# Altium integrated library TI Digital Signal Processor 32-Bit.IntLib: 121 symbols (part 5 of 13)
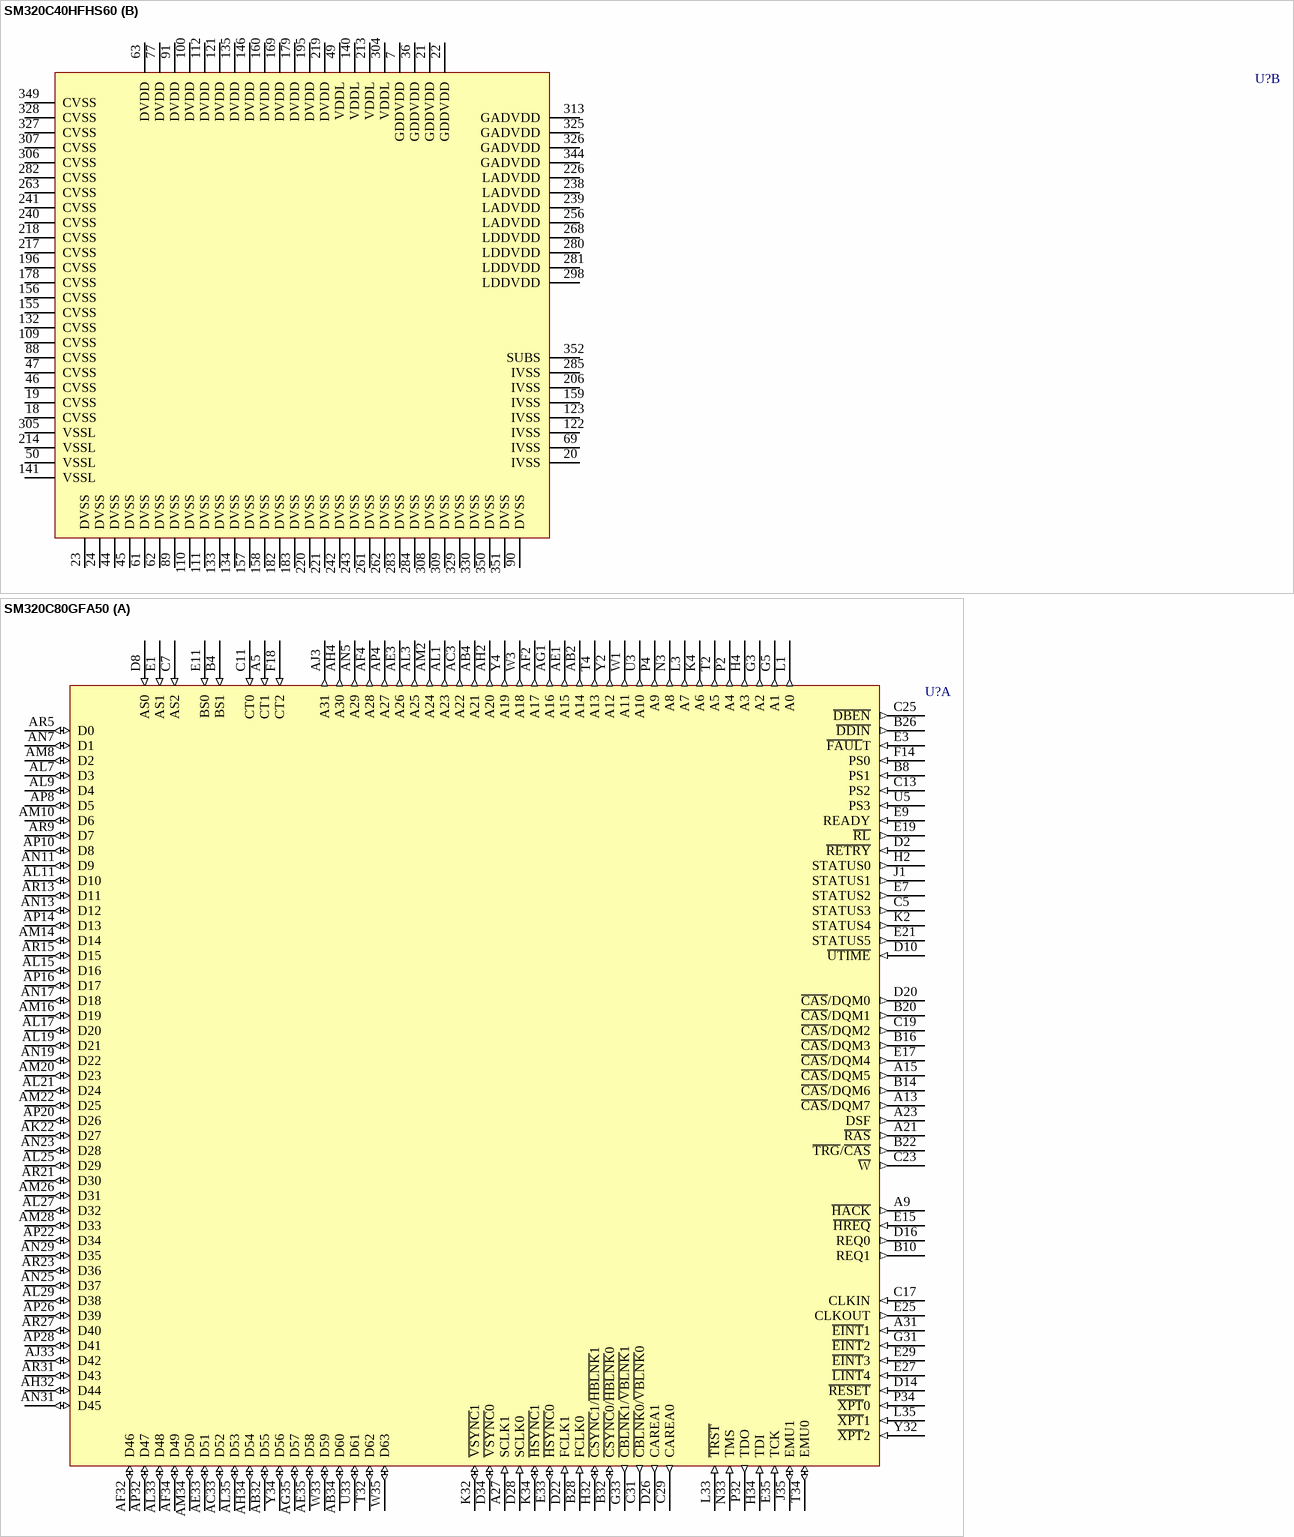
[diagram p134: symbols SM320C40HFHS60 to SM320C80GFA50]

## SM320C40HFHS60
designator U?
Floating DSP; Published: 25-Jan-2001; LatestRevisionDate: 13-Apr-2006; LatestRevisionNote: IPC-7351 Footprint Added.; DatasheetVersion: Jun-2000; PackageVersion: Jun-1999; PackageReference: HFH352; Publisher: Altium Limited; PackageDescription: QFP; 352 Leads; Body 48 x 48 mm; Pitch 0.5mm; ComponentLink1Description: Manufacturer Link; ComponentLink1URL: http://www.ti.com/; ComponentLink2Description: Datasheet; ComponentLink2URL: http://www-s.ti.com/sc/ds/sm320c40.pdf
footprint HFH352_N (CQFP, 352-Leads, Body 48x48mm; Pitch 0.5mm, Gullwing Leadform, IPC Medium Density)
footprint HFH352_L (CQFP, 352-Leads, Body 48x48mm; Pitch 0.5mm, Gullwing Leadform, IPC High Density)
footprint HFH352_M (CQFP, 352-Leads, Body 48x48mm; Pitch 0.5mm, Gullwing Leadform, IPC Low Density)
3D model SM320C40-HFH352 (QFP; 352 Leads; Body 48 x 48 mm; Pitch 0.5mm)
part A pins: 1 D31 (io), 2 D30 (io), 3 D29 (io), 4 D28 (io), 5 D27 (io), 6 D26 (io), 8 D25 (io), 9 D24 (io), 10 D23 (io), 11 D22 (io), 12 D21 (io), 13 D20 (io), 14 D19 (io), 15 D18 (io), 16 D17 (io), 17 D16 (io), 25 D15 (io), 26 D14 (io), 27 D13 (io), 28 D12 (io), 29 D11 (io), 30 D10 (io), 31 D9 (io), 32 D8 (io), 33 D7 (io), 34 D6 (io), 35 D5 (io), 37 D4 (io), 38 D3 (io), 39 D2 (io), 40 D1 (io), 41 D0 (io), 42 ~{CE}1 (in), 43 ~{RDY}1 (in), 48 ~{LOCK} (out), 51 ~{CE}0 (in), 52 ~{RDY}0 (in), 53 ~{DE} (in), 54 TCK (in), 55 TDO (hiz), 56 TDI (in), 57 TMS (in), 58 ~{TRST} (in), 59 EMU0 (io), 60 EMU1 (io), 64 PAGE1 (hiz), 65 R/~{W}1 (hiz), 66 ~{STRB}1 (hiz), 67 STAT0 (out), 68 STAT1 (out), 70 STAT2 (out), 71 STAT3 (out), 72 PAGE0 (hiz), 73 R/~{W}0 (hiz), 74 ~{STRB}0 (hiz), 75 ~{AE} (in), 76 RESETLOC1 (in), 78 RESETLOC0 (in), 79 ~{RESET} (in), 80 ~{CRDY}5 (io), 81 ~{CSTRB}5 (io), 82 ~{CACK}5 (io), 83 ~{CREQ}5 (io), 84 ~{CRDY}4 (io), 85 ~{CSTRB}4 (io), 86 ~{CACK}4 (io), 87 ~{CREQ}4 (io), 92 C5D7 (io), 93 C5D6 (io), 94 C5D5 (io), 95 C5D4 (io), 96 C5D3 (io), 97 C5D2 (io), 98 C5D1 (io), 99 C5D0 (io), 101 C4D7 (io), 102 C4D6 (io), 103 C4D5 (io), 104 C4D4 (io), 105 C4D3 (io), 106 C4D2 (io), 107 C4D1 (io), 108 C4D0 (io), 113 C3D7 (io), 114 C3D6 (io), 115 C3D5 (io), 116 C3D4 (io), 117 C3D3 (io), 118 C3D2 (io), 119 C3D1 (io), 120 C3D0 (io), 124 C2D7 (io), 125 C2D6 (io), 126 C2D5 (io), 127 C2D4 (io), 128 C2D3 (io), 129 C2D2 (io), 130 C2D1 (io), 131 C2D0 (io), 136 ~{CRDY}3 (io), 137 ~{CSTRB}3 (io), 138 ~{CACK}3 (io), 139 ~{CREQ}3 (io), 142 ~{CRDY}2 (io), 143 ~{CSTRB}2 (io), 144 ~{CACK}2 (io), 145 ~{CREQ}2 (io), 147 ~{CRDY}1 (io), 148 ~{CSTRB}1 (io), 149 ~{CACK}1 (io), 150 ~{CREQ}1 (io), 151 ~{CRDY}0 (io), 152 ~{CSTRB}0 (io), 153 ~{CACK}0 (io), 154 ~{CREQ}0 (io), 161 C1D7 (io), 162 C1D6 (io), 163 C1D5 (io), 164 C1D4 (io), 165 C1D3 (io), 166 C1D2 (io), 167 C1D1 (io), 168 C1D0 (io), 170 C0D7 (io), 171 C0D6 (io), 172 C0D5 (io), 173 C0D4 (io), 174 C0D3 (io), 175 C0D2 (io), 176 C0D1 (io), 177 C0D0 (io), 180 ROMEN (in), 181 ~{IIOF}0 (io), 184 ~{IIOF}1 (io), 185 ~{IIOF}2 (io), 186 ~{IIOF}3 (io), 187 ~{NMI} (in), 188 ~{LSTRB}0 (hiz), 189 LR/~{W}0 (hiz), 190 LPAGE0 (hiz), 191 ~{LRDY}0 (in), 192 ~{LCE}0 (in), 193 ~{LSTRB}1 (hiz), 194 LR/~{W}1 (hiz), 197 LPAGE1 (hiz), 198 ~{LRDY}1 (in), 199 ~{LCE}1 (in), 200 ~{LDE} (in), 201 TCLK0 (io), 202 TCLK1 (io), 203 H3 (out), 204 H1 (out), 205 ~{LAE} (in), 207 ~{LLOCK} (out), 208 LSTAT0 (out), 209 LSTAT1 (out), 210 LSTAT2 (out), 211 LSTAT3 (out), 212 ~{IACK} (out), 215 X1 (out), 216 X2/CLKI (in), 222 LA30 (hiz), 223 LA29 (hiz), 224 LA28 (hiz), 225 LA27 (hiz), 227 LA26 (hiz), 228 LA25 (hiz), 229 LA24 (hiz), 230 LA23 (hiz), 231 LA22 (hiz), 232 LA21 (hiz), 233 LA20 (hiz), 234 LA19 (hiz), 235 LA18 (hiz), 236 LA17 (hiz), 237 LA16 (hiz), 244 LA15 (hiz), 245 LA14 (hiz), 246 LA13 (hiz), 247 LA12 (hiz), 248 LA11 (hiz), 249 LA10 (hiz), 250 LA9 (hiz), 251 LA8 (hiz), 252 LA7 (hiz), 253 LA6 (hiz), 254 LA5 (hiz), 255 LA4 (hiz), 257 LA3 (hiz), 258 LA2 (hiz), 259 LA1 (hiz), 260 LA0 (hiz), 264 LD31 (io), 265 LD30 (io), 266 LD29 (io), 267 LD28 (io), 269 LD27 (io), 270 LD26 (io), 271 LD25 (io), 272 LD24 (io), 273 LD23 (io), 274 LD22 (io), 275 LD21 (io), 276 LD20 (io), 277 LD19 (io), 278 LD18 (io), 279 LD17 (io), 286 LD16 (io), 287 LD15 (io), 288 LD14 (io), 289 LD13 (io), 290 LD12 (io), 291 LD11 (io), 292 LD10 (io), 293 LD9 (io), 294 LD8 (io), 295 LD7 (io), 296 LD6 (io), 297 LD5 (io), 299 LD4 (io), 300 LD3 (io), 301 LD2 (io), 302 LD1 (io), 303 LD0 (io), 310 A30 (hiz), 311 A29 (hiz), 312 A28 (hiz), 314 A27 (hiz), 315 A26 (hiz), 316 A25 (hiz), 317 A24 (hiz), 318 A23 (hiz), 319 A22 (hiz), 320 A21 (hiz), 321 A20 (hiz), 322 A19 (hiz), 323 A18 (hiz), 324 A17 (hiz), 331 A16 (hiz), 332 A15 (hiz), 333 A14 (hiz), 334 A13 (hiz), 335 A12 (hiz), 336 A11 (hiz), 337 A10 (hiz), 338 A9 (hiz), 339 A8 (hiz), 340 A7 (hiz), 341 A6 (hiz), 342 A5 (hiz), 343 A4 (hiz), 345 A3 (hiz), 346 A2 (hiz), 347 A1 (hiz), 348 A0 (hiz)
part B pins: 7 GDDVDD (power), 18 CVSS (power), 19 CVSS (power), 20 IVSS (power), 21 GDDVDD (power), 22 GDDVDD (power), 23 DVSS (power), 24 DVSS (power), 36 GDDVDD (power), 44 DVSS (power), 45 DVSS (power), 46 CVSS (power), 47 CVSS (power), 49 VDDL (power), 50 VSSL (power), 61 DVSS (power), 62 DVSS (power), 63 DVDD (power), 69 IVSS (power), 77 DVDD (power), 88 CVSS (power), 89 DVSS (power), 90 DVSS (power), 91 DVDD (power), 100 DVDD (power), 109 CVSS (power), 110 DVSS (power), 111 DVSS (power), 112 DVDD (power), 121 DVDD (power), 122 IVSS (power), 123 IVSS (power), 132 CVSS (power), 133 DVSS (power), 134 DVSS (power), 135 DVDD (power), 140 VDDL (power), 141 VSSL (power), 146 DVDD (power), 155 CVSS (power), 156 CVSS (power), 157 DVSS (power), 158 DVSS (power), 159 IVSS (power), 160 DVDD (power), 169 DVDD (power), 178 CVSS (power), 179 DVDD (power), 182 DVSS (power), 183 DVSS (power), 195 DVDD (power), 196 CVSS (power), 206 IVSS (power), 213 VDDL (power), 214 VSSL (power), 217 CVSS (power), 218 CVSS (power), 219 DVDD (power), 220 DVSS (power), 221 DVSS (power), 226 LADVDD (power), 238 LADVDD (power), 239 LADVDD (power), 240 CVSS (power), 241 CVSS (power), 242 DVSS (power), 243 DVSS (power), 256 LADVDD (power), 261 DVSS (power), 262 DVSS (power), 263 CVSS (power), 268 LDDVDD (power), 280 LDDVDD (power), 281 LDDVDD (power), 282 CVSS (power), 283 DVSS (power), 284 DVSS (power), 285 IVSS (power), 298 LDDVDD (power), 304 VDDL (power), 305 VSSL (power), 306 CVSS (power), 307 CVSS (power), 308 DVSS (power), 309 DVSS (power), 313 GADVDD (power), 325 GADVDD (power), 326 GADVDD (power), 327 CVSS (power), 328 CVSS (power), 329 DVSS (power), 330 DVSS (power), 344 GADVDD (power), 349 CVSS (power), 350 DVSS (power), 351 DVSS (power), 352 SUBS (power)

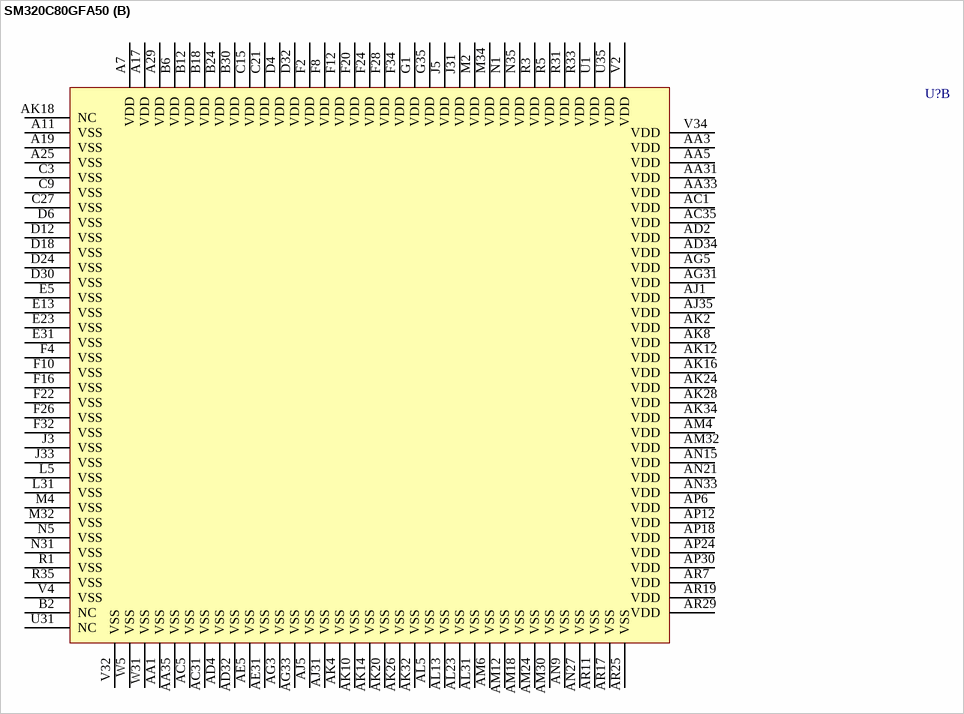
[diagram p52: symbol SM320C80GFA50]

## SM320C80GFA50
designator U?
DSP; Published: 25-Jan-2001; LatestRevisionDate: 08-Jul-2005; LatestRevisionNote: Stylized 3D Model Added.; DatasheetVersion: Aug-1998; PackageVersion: Jun-1997; PackageReference: GF305; Publisher: Altium Limited; PackageDescription: 305-Pin Pin Grid Array 2.54 mm Pitch; ComponentLink1Description: Manufacturer Link; ComponentLink1URL: http://www.ti.com/; ComponentLink2Description: Datasheet; ComponentLink2URL: http://www-s.ti.com/sc/ds/smj320c80.pdf
footprint GF305 (PGA, 305-Leads, Body 47x47mm, Pitch 2.54mm)
3D model SM320C80-GF305 (305-Pin Pin Grid Array 2.54 mm Pitch)
part A pins: A5 CT1 (in), A9 ~{HACK} (out), A13 ~{CAS}/DQM7 (out), A15 ~{CAS}/DQM5 (out), A21 ~{RAS} (out), A23 DSF (out), A27 SCLK1 (in), A31 ~{EINT}1 (in), AB2 A14 (out), AB4 A21 (out), AB32 D55 (io), AB34 D60 (io), AC3 A22 (out), AC33 D52 (io), AE1 A15 (out), AE3 A26 (out), AE33 D51 (io), AE35 D58 (io), AF2 A17 (out), AF4 A28 (out), AF32 D46 (io), AF34 D49 (io), AG1 A16 (out), AG35 D57 (io), AH2 A20 (out), AH4 A30 (out), AH32 D44 (io), AH34 D54 (io), AJ3 A31 (out), AJ33 D42 (io), AK22 D27 (io), AL1 A23 (out), AL3 A25 (out), AL7 D3 (io), AL9 D4 (io), AL11 D10 (io), AL15 D16 (io), AL17 D20 (io), AL19 D21 (io), AL21 D24 (io), AL25 D29 (io), AL27 D32 (io), AL29 D38 (io), AL33 D48 (io), AL35 D53 (io), AM2 A24 (out), AM8 D2 (io), AM10 D6 (io), AM14 D14 (io), AM16 D19 (io), AM20 D23 (io), AM22 D25 (io), AM26 D31 (io), AM28 D33 (io), AM34 D50 (io), AN5 A29 (out), AN7 D1 (io), AN11 D9 (io), AN13 D12 (io), AN17 D18 (io), AN19 D22 (io), AN23 D28 (io), AN25 D37 (io), AN29 D35 (io), AN31 D45 (io), AP4 A27 (out), AP8 D5 (io), AP10 D8 (io), AP14 D13 (io), AP16 D17 (io), AP20 D26 (io), AP22 D34 (io), AP26 D39 (io), AP28 D41 (io), AP32 D47 (io), AR5 D0 (io), AR9 D7 (io), AR13 D11 (io), AR15 D15 (io), AR21 D30 (io), AR23 D36 (io), AR27 D40 (io), AR31 D43 (io), B4 BS1 (in), B8 PS1 (in), B10 REQ1 (out), B14 ~{CAS}/DQM6 (out), B16 ~{CAS}/DQM3 (out), B20 ~{CAS}/DQM1 (out), B22 ~{TRG}/~{CAS} (out), B26 ~{DDIN} (out), B28 FCLK0 (in), B32 ~{CSYNC}0/~{HBLNK}0 (io), C5 STATUS3 (out), C7 AS2 (in), C11 CT0 (in), C13 PS2 (in), C17 CLKIN (in), C19 ~{CAS}/DQM2 (out), C23 ~{W} (out), C25 ~{DBEN} (out), C29 CAREA0 (out), C31 ~{CBLNK}0/~{VBLNK}0 (out), D2 ~{RETRY} (in), D8 AS0 (in), D10 ~{UTIME} (in), D14 ~{RESET} (in), D16 REQ0 (out), D20 ~{CAS}/DQM0 (out), D22 FCLK1 (in), D26 CAREA1 (out), D28 SCLK0 (in), D34 ~{VSYNC}0 (io), E1 AS1 (in), E3 ~{FAUL}T (in), E7 STATUS2 (out), E9 READY (in), E11 BS0 (in), E15 ~{HREQ} (in), E17 ~{CAS}/DQM4 (out), E19 ~{RL} (out), E21 STATUS5 (out), E25 CLKOUT (out), E27 ~{LINT}4 (in), E29 ~{EINT}3 (in), E33 ~{HSYNC}0 (io), E35 TCK (in), F14 PS0 (in), F18 CT2 (in), G3 A2 (out), G5 A1 (out), G31 ~{EINT}2 (in), G33 ~{CBLNK}1/~{VBLNK}1 (out), H2 STATUS0 (out), H4 A3 (out), H32 ~{CSYNC}1/~{HBLNK}1 (io), H34 TDI (in), J1 STATUS1 (out), J35 EMU1 (io), K2 STATUS4 (out), K4 A6 (out), K32 ~{VSYNC}1 (io), K34 ~{HSYNC}1 (io), L1 A0 (out), L3 A7 (out), L33 ~{TRST} (in), L35 ~{XPT}1 (in), N3 A8 (out), N33 TMS (in), P2 A4 (out), P4 A9 (out), P32 TDO (out), P34 ~{XPT}0 (in), T2 A5 (out), T4 A13 (out), T32 D62 (io), T34 EMU0 (io), U3 A10 (out), U5 PS3 (in), U33 D61 (io), W1 A11 (out), W3 A18 (out), W33 D59 (io), W35 D63 (io), Y2 A12 (out), Y4 A19 (out), Y32 ~{XPT}2 (in), Y34 D56 (io)
part B pins: A7 VDD (power), A11 VSS (power), A17 VDD (power), A19 VSS (power), A25 VSS (power), A29 VDD (power), AA1 VSS (power), AA3 VDD (power), AA5 VDD (power), AA31 VDD (power), AA33 VDD (power), AA35 VSS (power), AC1 VDD (power), AC5 VSS (power), AC31 VSS (power), AC35 VDD (power), AD2 VDD (power), AD4 VSS (power), AD32 VSS (power), AD34 VDD (power), AE5 VSS (power), AE31 VSS (power), AG3 VSS (power), AG5 VDD (power), AG31 VDD (power), AG33 VSS (power), AJ1 VDD (power), AJ5 VSS (power), AJ31 VSS (power), AJ35 VDD (power), AK2 VDD (power), AK4 VSS (power), AK8 VDD (power), AK10 VSS (power), AK12 VDD (power), AK14 VSS (power), AK16 VDD (power), AK18 NC, AK20 VSS (power), AK24 VDD (power), AK26 VSS (power), AK28 VDD (power), AK32 VSS (power), AK34 VDD (power), AL5 VSS (power), AL13 VSS (power), AL23 VSS (power), AL31 VSS (power), AM4 VDD (power), AM6 VSS (power), AM12 VSS (power), AM18 VSS (power), AM24 VSS (power), AM30 VSS (power), AM32 VDD (power), AN9 VSS (power), AN15 VDD (power), AN21 VDD (power), AN27 VSS (power), AN33 VDD (power), AP6 VDD (power), AP12 VDD (power), AP18 VDD (power), AP24 VDD (power), AP30 VDD (power), AR7 VDD (power), AR11 VSS (power), AR17 VSS (power), AR19 VDD (power), AR25 VSS (power), AR29 VDD (power), B2 NC, B6 VDD (power), B12 VDD (power), B18 VDD (power), B24 VDD (power), B30 VDD (power), C3 VSS (power), C9 VSS (power), C15 VDD (power), C21 VDD (power), C27 VSS (power), D4 VDD (power), D6 VSS (power), D12 VSS (power), D18 VSS (power), D24 VSS (power), D30 VSS (power), D32 VDD (power), E5 VSS (power), E13 VSS (power), E23 VSS (power), E31 VSS (power), F2 VDD (power), F4 VSS (power), F8 VDD (power), F10 VSS (power), F12 VDD (power), F16 VSS (power), F20 VDD (power), F22 VSS (power), F24 VDD (power), F26 VSS (power), F28 VDD (power), F32 VSS (power), F34 VDD (power), G1 VDD (power), G35 VDD (power), J3 VSS (power), J5 VDD (power), J31 VDD (power), J33 VSS (power), L5 VSS (power), L31 VSS (power), M2 VDD (power), M4 VSS (power), M32 VSS (power), M34 VDD (power), N1 VDD (power), N5 VSS (power), N31 VSS (power), N35 VDD (power), R1 VSS (power), R3 VDD (power), R5 VDD (power), R31 VDD (power), R33 VDD (power), R35 VSS (power), U1 VDD (power), U31 NC, U35 VDD (power), V2 VDD (power), V4 VSS (power), V32 VSS (power), V34 VDD (power), W5 VSS (power), W31 VSS (power)

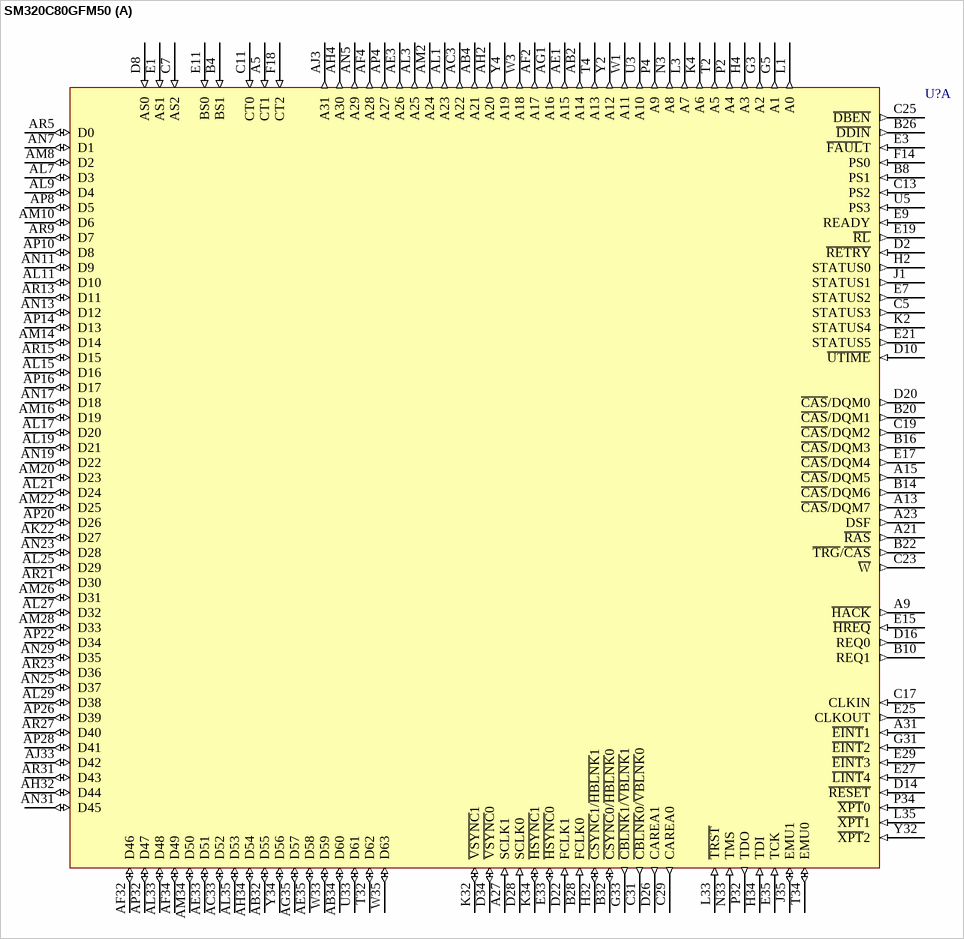
[diagram p53: symbol SM320C80GFM50]

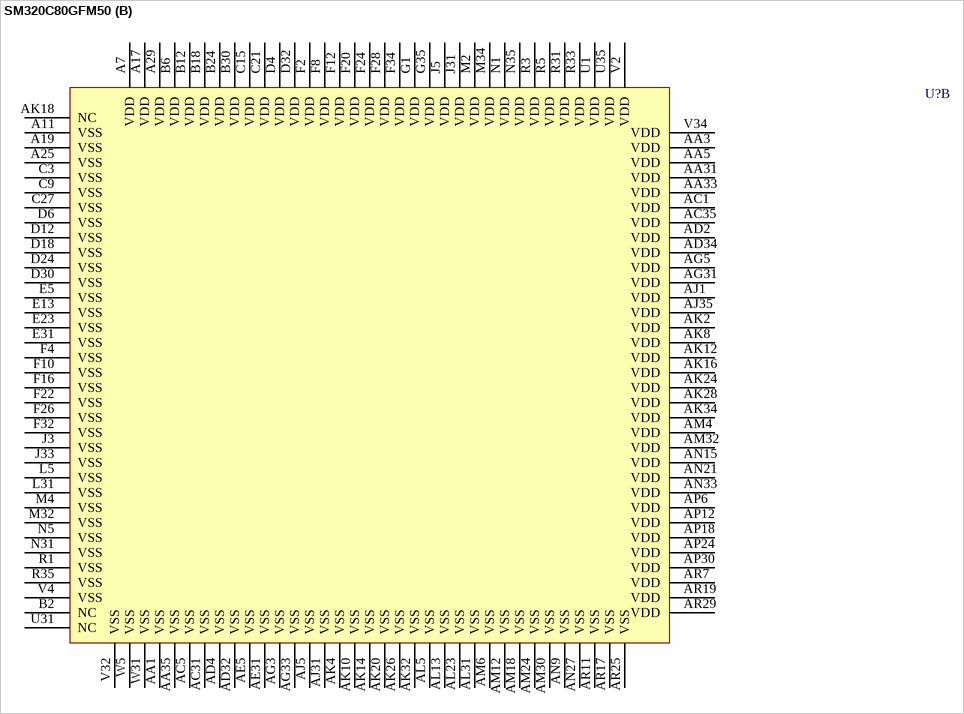
[diagram p54: symbol SM320C80GFM50]

## SM320C80GFM50
designator U?
DSP; Published: 25-Jan-2001; LatestRevisionDate: 08-Jul-2005; LatestRevisionNote: Stylized 3D Model Added.; DatasheetVersion: Aug-1998; PackageVersion: Jun-1997; PackageReference: GF305; Publisher: Altium Limited; PackageDescription: 305-Pin Pin Grid Array 2.54 mm Pitch; ComponentLink1Description: Manufacturer Link; ComponentLink1URL: http://www.ti.com/; ComponentLink2Description: Datasheet; ComponentLink2URL: http://www-s.ti.com/sc/ds/smj320c80.pdf
footprint GF305 (PGA, 305-Leads, Body 47x47mm, Pitch 2.54mm)
3D model SM320C80-GF305 (305-Pin Pin Grid Array 2.54 mm Pitch)
part A pins: A5 CT1 (in), A9 ~{HACK} (out), A13 ~{CAS}/DQM7 (out), A15 ~{CAS}/DQM5 (out), A21 ~{RAS} (out), A23 DSF (out), A27 SCLK1 (in), A31 ~{EINT}1 (in), AB2 A14 (out), AB4 A21 (out), AB32 D55 (io), AB34 D60 (io), AC3 A22 (out), AC33 D52 (io), AE1 A15 (out), AE3 A26 (out), AE33 D51 (io), AE35 D58 (io), AF2 A17 (out), AF4 A28 (out), AF32 D46 (io), AF34 D49 (io), AG1 A16 (out), AG35 D57 (io), AH2 A20 (out), AH4 A30 (out), AH32 D44 (io), AH34 D54 (io), AJ3 A31 (out), AJ33 D42 (io), AK22 D27 (io), AL1 A23 (out), AL3 A25 (out), AL7 D3 (io), AL9 D4 (io), AL11 D10 (io), AL15 D16 (io), AL17 D20 (io), AL19 D21 (io), AL21 D24 (io), AL25 D29 (io), AL27 D32 (io), AL29 D38 (io), AL33 D48 (io), AL35 D53 (io), AM2 A24 (out), AM8 D2 (io), AM10 D6 (io), AM14 D14 (io), AM16 D19 (io), AM20 D23 (io), AM22 D25 (io), AM26 D31 (io), AM28 D33 (io), AM34 D50 (io), AN5 A29 (out), AN7 D1 (io), AN11 D9 (io), AN13 D12 (io), AN17 D18 (io), AN19 D22 (io), AN23 D28 (io), AN25 D37 (io), AN29 D35 (io), AN31 D45 (io), AP4 A27 (out), AP8 D5 (io), AP10 D8 (io), AP14 D13 (io), AP16 D17 (io), AP20 D26 (io), AP22 D34 (io), AP26 D39 (io), AP28 D41 (io), AP32 D47 (io), AR5 D0 (io), AR9 D7 (io), AR13 D11 (io), AR15 D15 (io), AR21 D30 (io), AR23 D36 (io), AR27 D40 (io), AR31 D43 (io), B4 BS1 (in), B8 PS1 (in), B10 REQ1 (out), B14 ~{CAS}/DQM6 (out), B16 ~{CAS}/DQM3 (out), B20 ~{CAS}/DQM1 (out), B22 ~{TRG}/~{CAS} (out), B26 ~{DDIN} (out), B28 FCLK0 (in), B32 ~{CSYNC}0/~{HBLNK}0 (io), C5 STATUS3 (out), C7 AS2 (in), C11 CT0 (in), C13 PS2 (in), C17 CLKIN (in), C19 ~{CAS}/DQM2 (out), C23 ~{W} (out), C25 ~{DBEN} (out), C29 CAREA0 (out), C31 ~{CBLNK}0/~{VBLNK}0 (out), D2 ~{RETRY} (in), D8 AS0 (in), D10 ~{UTIME} (in), D14 ~{RESET} (in), D16 REQ0 (out), D20 ~{CAS}/DQM0 (out), D22 FCLK1 (in), D26 CAREA1 (out), D28 SCLK0 (in), D34 ~{VSYNC}0 (io), E1 AS1 (in), E3 ~{FAUL}T (in), E7 STATUS2 (out), E9 READY (in), E11 BS0 (in), E15 ~{HREQ} (in), E17 ~{CAS}/DQM4 (out), E19 ~{RL} (out), E21 STATUS5 (out), E25 CLKOUT (out), E27 ~{LINT}4 (in), E29 ~{EINT}3 (in), E33 ~{HSYNC}0 (io), E35 TCK (in), F14 PS0 (in), F18 CT2 (in), G3 A2 (out), G5 A1 (out), G31 ~{EINT}2 (in), G33 ~{CBLNK}1/~{VBLNK}1 (out), H2 STATUS0 (out), H4 A3 (out), H32 ~{CSYNC}1/~{HBLNK}1 (io), H34 TDI (in), J1 STATUS1 (out), J35 EMU1 (io), K2 STATUS4 (out), K4 A6 (out), K32 ~{VSYNC}1 (io), K34 ~{HSYNC}1 (io), L1 A0 (out), L3 A7 (out), L33 ~{TRST} (in), L35 ~{XPT}1 (in), N3 A8 (out), N33 TMS (in), P2 A4 (out), P4 A9 (out), P32 TDO (out), P34 ~{XPT}0 (in), T2 A5 (out), T4 A13 (out), T32 D62 (io), T34 EMU0 (io), U3 A10 (out), U5 PS3 (in), U33 D61 (io), W1 A11 (out), W3 A18 (out), W33 D59 (io), W35 D63 (io), Y2 A12 (out), Y4 A19 (out), Y32 ~{XPT}2 (in), Y34 D56 (io)
part B pins: A7 VDD (power), A11 VSS (power), A17 VDD (power), A19 VSS (power), A25 VSS (power), A29 VDD (power), AA1 VSS (power), AA3 VDD (power), AA5 VDD (power), AA31 VDD (power), AA33 VDD (power), AA35 VSS (power), AC1 VDD (power), AC5 VSS (power), AC31 VSS (power), AC35 VDD (power), AD2 VDD (power), AD4 VSS (power), AD32 VSS (power), AD34 VDD (power), AE5 VSS (power), AE31 VSS (power), AG3 VSS (power), AG5 VDD (power), AG31 VDD (power), AG33 VSS (power), AJ1 VDD (power), AJ5 VSS (power), AJ31 VSS (power), AJ35 VDD (power), AK2 VDD (power), AK4 VSS (power), AK8 VDD (power), AK10 VSS (power), AK12 VDD (power), AK14 VSS (power), AK16 VDD (power), AK18 NC, AK20 VSS (power), AK24 VDD (power), AK26 VSS (power), AK28 VDD (power), AK32 VSS (power), AK34 VDD (power), AL5 VSS (power), AL13 VSS (power), AL23 VSS (power), AL31 VSS (power), AM4 VDD (power), AM6 VSS (power), AM12 VSS (power), AM18 VSS (power), AM24 VSS (power), AM30 VSS (power), AM32 VDD (power), AN9 VSS (power), AN15 VDD (power), AN21 VDD (power), AN27 VSS (power), AN33 VDD (power), AP6 VDD (power), AP12 VDD (power), AP18 VDD (power), AP24 VDD (power), AP30 VDD (power), AR7 VDD (power), AR11 VSS (power), AR17 VSS (power), AR19 VDD (power), AR25 VSS (power), AR29 VDD (power), B2 NC, B6 VDD (power), B12 VDD (power), B18 VDD (power), B24 VDD (power), B30 VDD (power), C3 VSS (power), C9 VSS (power), C15 VDD (power), C21 VDD (power), C27 VSS (power), D4 VDD (power), D6 VSS (power), D12 VSS (power), D18 VSS (power), D24 VSS (power), D30 VSS (power), D32 VDD (power), E5 VSS (power), E13 VSS (power), E23 VSS (power), E31 VSS (power), F2 VDD (power), F4 VSS (power), F8 VDD (power), F10 VSS (power), F12 VDD (power), F16 VSS (power), F20 VDD (power), F22 VSS (power), F24 VDD (power), F26 VSS (power), F28 VDD (power), F32 VSS (power), F34 VDD (power), G1 VDD (power), G35 VDD (power), J3 VSS (power), J5 VDD (power), J31 VDD (power), J33 VSS (power), L5 VSS (power), L31 VSS (power), M2 VDD (power), M4 VSS (power), M32 VSS (power), M34 VDD (power), N1 VDD (power), N5 VSS (power), N31 VSS (power), N35 VDD (power), R1 VSS (power), R3 VDD (power), R5 VDD (power), R31 VDD (power), R33 VDD (power), R35 VSS (power), U1 VDD (power), U31 NC, U35 VDD (power), V2 VDD (power), V4 VSS (power), V32 VSS (power), V34 VDD (power), W5 VSS (power), W31 VSS (power)

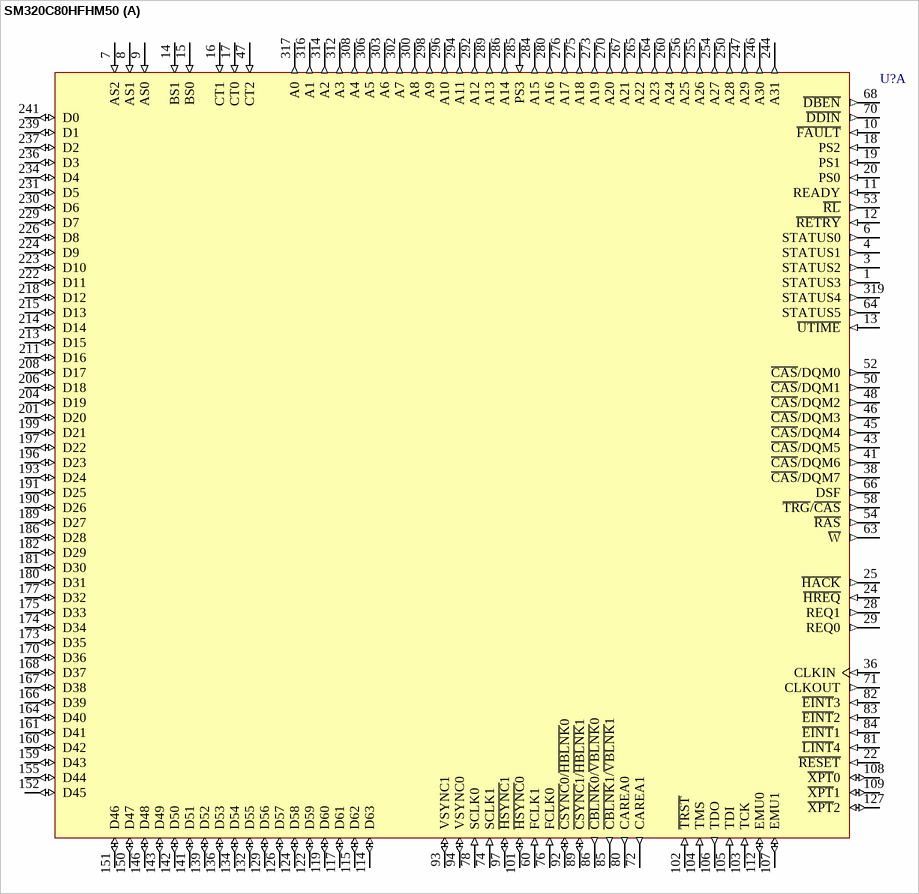
[diagram p55: symbol SM320C80HFHM50]

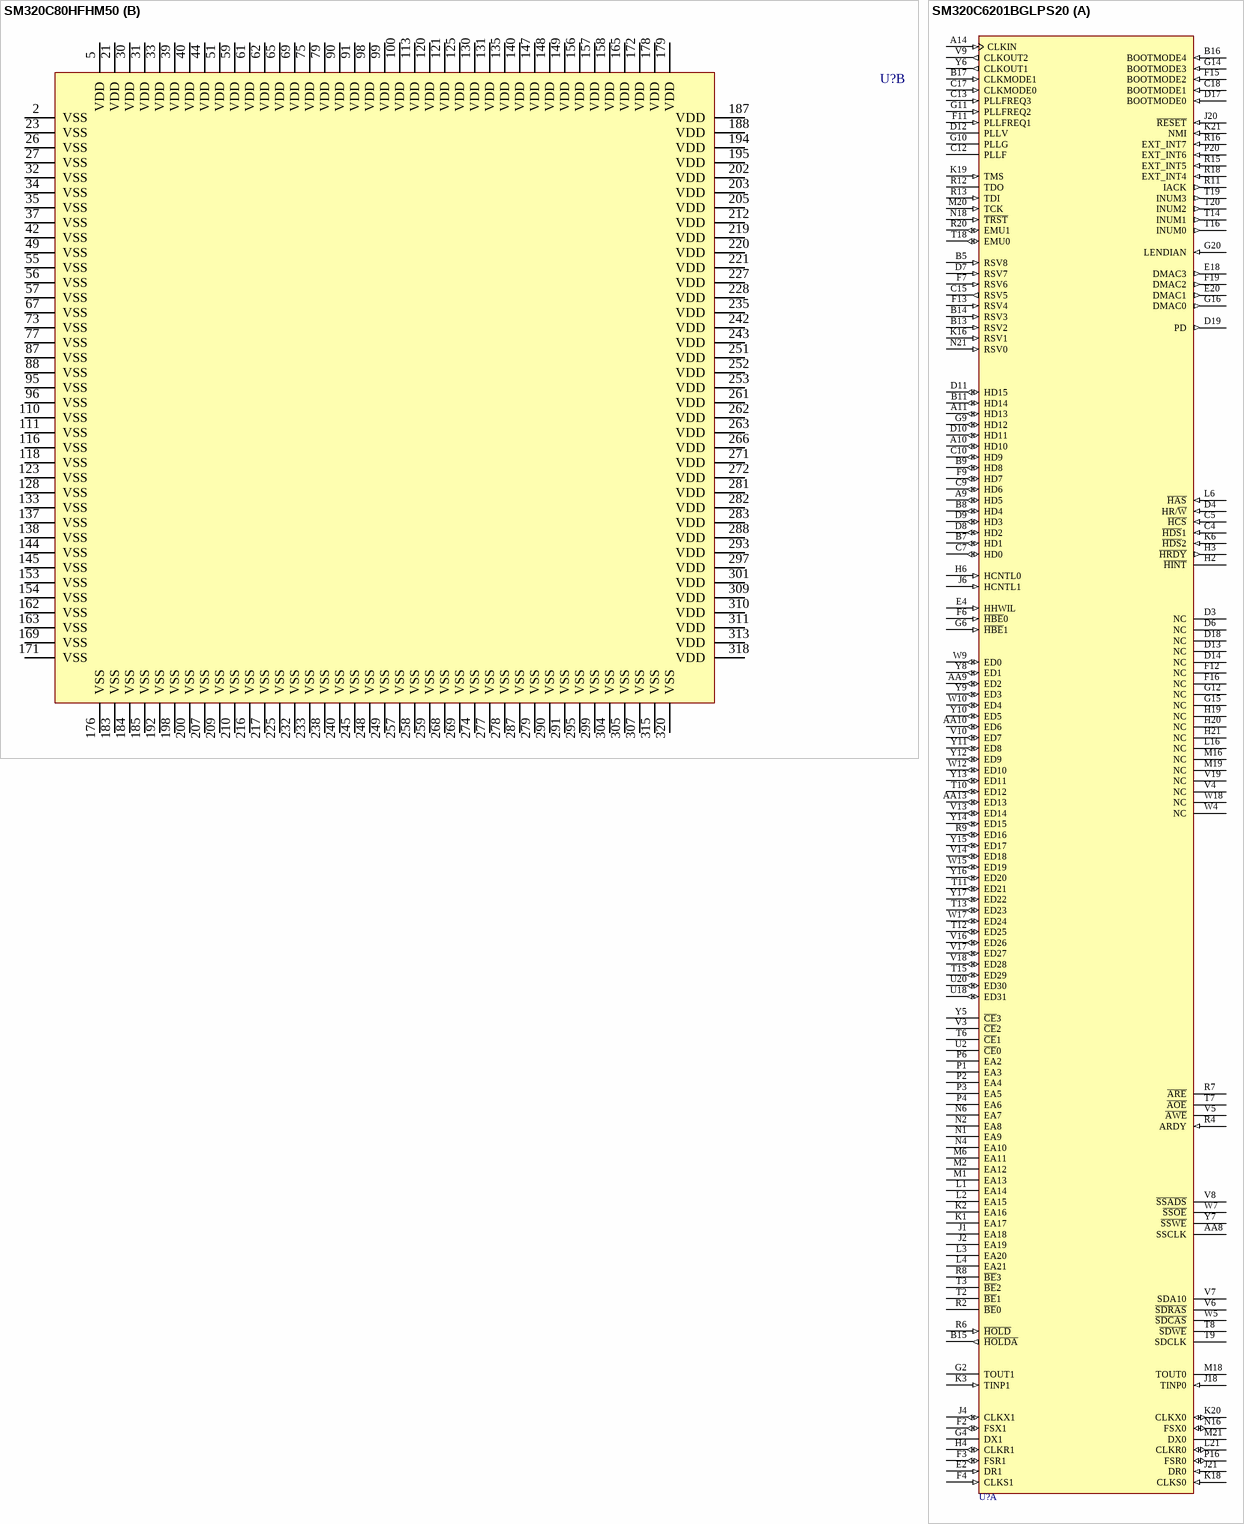
[diagram p56: symbols SM320C80HFHM50 to SM320C6201BGLPS20]

## SM320C80HFHM50
designator U?
DSP; Published: 25-Jan-2001; LatestRevisionDate: 13-Apr-2006; LatestRevisionNote: IPC-7351 Footprint Added.; DatasheetVersion: Aug-1998; PackageVersion: Jun-1999; PackageReference: HFH320; Publisher: Altium Limited; PackageDescription: QFP; 320 Leads; Body 44 x 44 mm; Pitch 0.5mm; ComponentLink1Description: Manufacturer Link; ComponentLink1URL: http://www.ti.com/; ComponentLink2Description: Datasheet; ComponentLink2URL: http://www-s.ti.com/sc/ds/smj320c80.pdf
footprint HFH320_N (CQFP, 320-Leads, Body 44x44mm; Pitch 0.5mm, Gullwing Leadform, IPC Medium Density)
footprint HFH320_L (CQFP, 320-Leads, Body 44x44mm; Pitch 0.5mm, Gullwing Leadform, IPC High Density)
footprint HFH320_M (CQFP, 320-Leads, Body 44x44mm; Pitch 0.5mm, Gullwing Leadform, IPC Low Density)
3D model SM320C80-HFH320 (QFP; 320 Leads; Body 44 x 44 mm; Pitch 0.5mm)
part A pins: 1 STATUS3 (out), 3 STATUS2 (out), 4 STATUS1 (out), 6 STATUS0 (out), 7 AS2 (in), 8 AS1 (in), 9 AS0 (in), 10 ~{FAULT} (in), 11 READY (in), 12 ~{RETRY} (in), 13 ~{UTIME} (in), 14 BS1 (in), 15 BS0 (in), 16 CT1 (in), 17 CT0 (in), 18 PS2 (in), 19 PS1 (in), 20 PS0 (in), 22 ~{RESET} (in), 24 ~{HREQ} (in), 25 ~{HACK} (out), 28 REQ1 (out), 29 REQ0 (out), 36 CLKIN (in), 38 ~{CAS}/DQM7 (out), 41 ~{CAS}/DQM6 (out), 43 ~{CAS}/DQM5 (out), 45 ~{CAS}/DQM4 (out), 46 ~{CAS}/DQM3 (out), 47 CT2 (in), 48 ~{CAS}/DQM2 (out), 50 ~{CAS}/DQM1 (out), 52 ~{CAS}/DQM0 (out), 53 ~{RL} (out), 54 ~{RAS} (out), 58 ~{TRG}/~{CAS} (out), 60 FCLK1 (in), 63 ~{W} (out), 64 STATUS5 (out), 66 DSF (out), 68 ~{DBEN} (out), 70 ~{DDIN} (out), 71 CLKOUT (out), 72 CAREA1 (out), 74 SCLK1 (in), 76 FCLK0 (in), 78 SCLK0 (in), 80 CAREA0 (out), 81 ~{LINT}4 (in), 82 ~{EINT}3 (in), 83 ~{EINT}2 (in), 84 ~{EINT}1 (in), 85 ~{CBLNK}1/~{VBLNK}1 (out), 86 ~{CBLNK}0/~{VBLNK}0 (out), 89 ~{CSYNC}1/~{HBLNK}1 (io), 92 ~{CSYNC}0/~{HBLNK}0 (io), 93 VSYNC1 (io), 94 VSYNC0 (io), 97 ~{HSYNC}1 (io), 101 ~{HSYNC}0 (io), 102 ~{TRST} (in), 103 TCK (in), 104 TMS (in), 105 TDI (in), 106 TDO (out), 107 EMU1 (io), 108 ~{XPT}0 (io), 109 ~{XPT}1 (io), 112 EMU0 (io), 114 D63 (io), 115 D62 (io), 117 D61 (io), 119 D60 (io), 122 D59 (io), 124 D58 (io), 126 D57 (io), 127 ~{XPT}2 (io), 129 D56 (io), 132 D55 (io), 134 D54 (io), 136 D53 (io), 139 D52 (io), 141 D51 (io), 142 D50 (io), 143 D49 (io), 146 D48 (io), 150 D47 (io), 151 D46 (io), 152 D45 (io), 155 D44 (io), 159 D43 (io), 160 D42 (io), 161 D41 (io), 164 D40 (io), 166 D39 (io), 167 D38 (io), 168 D37 (io), 170 D36 (io), 173 D35 (io), 174 D34 (io), 175 D33 (io), 177 D32 (io), 180 D31 (io), 181 D30 (io), 182 D29 (io), 186 D28 (io), 189 D27 (io), 190 D26 (io), 191 D25 (io), 193 D24 (io), 196 D23 (io), 197 D22 (io), 199 D21 (io), 201 D20 (io), 204 D19 (io), 206 D18 (io), 208 D17 (io), 211 D16 (io), 213 D15 (io), 214 D14 (io), 215 D13 (io), 218 D12 (io), 222 D11 (io), 223 D10 (io), 224 D9 (io), 226 D8 (io), 229 D7 (io), 230 D6 (io), 231 D5 (io), 234 D4 (io), 236 D3 (io), 237 D2 (io), 239 D1 (io), 241 D0 (io), 244 A31 (out), 246 A30 (out), 247 A29 (out), 250 A28 (out), 254 A27 (out), 255 A26 (out), 256 A25 (out), 260 A24 (out), 264 A23 (out), 265 A22 (out), 267 A21 (out), 270 A20 (out), 273 A19 (out), 275 A18 (out), 276 A17 (out), 280 A16 (out), 284 A15 (out), 285 PS3 (in), 286 A14 (out), 289 A13 (out), 292 A12 (out), 294 A11 (out), 296 A10 (out), 298 A9 (out), 300 A8 (out), 302 A7 (out), 303 A6 (out), 306 A5 (out), 308 A4 (out), 312 A3 (out), 314 A2 (out), 316 A1 (out), 317 A0 (out), 319 STATUS4 (out)
part B pins: 2 VSS (power), 5 VDD (power), 21 VDD (power), 23 VSS (power), 26 VSS (power), 27 VSS (power), 30 VDD (power), 31 VDD (power), 32 VSS (power), 33 VDD (power), 34 VSS (power), 35 VSS (power), 37 VSS (power), 39 VDD (power), 40 VDD (power), 42 VSS (power), 44 VDD (power), 49 VSS (power), 51 VDD (power), 55 VSS (power), 56 VSS (power), 57 VSS (power), 59 VDD (power), 61 VDD (power), 62 VDD (power), 65 VDD (power), 67 VSS (power), 69 VDD (power), 73 VSS (power), 75 VDD (power), 77 VSS (power), 79 VDD (power), 87 VSS (power), 88 VSS (power), 90 VDD (power), 91 VDD (power), 95 VSS (power), 96 VSS (power), 98 VDD (power), 99 VDD (power), 100 VDD (power), 110 VSS (power), 111 VSS (power), 113 VDD (power), 116 VSS (power), 118 VSS (power), 120 VDD (power), 121 VDD (power), 123 VSS (power), 125 VDD (power), 128 VSS (power), 130 VDD (power), 131 VDD (power), 133 VSS (power), 135 VDD (power), 137 VSS (power), 138 VSS (power), 140 VDD (power), 144 VSS (power), 145 VSS (power), 147 VDD (power), 148 VDD (power), 149 VDD (power), 153 VSS (power), 154 VSS (power), 156 VDD (power), 157 VDD (power), 158 VDD (power), 162 VSS (power), 163 VSS (power), 165 VDD (power), 169 VSS (power), 171 VSS (power), 172 VDD (power), 176 VSS (power), 178 VDD (power), 179 VDD (power), 183 VSS (power), 184 VSS (power), 185 VSS (power), 187 VDD (power), 188 VDD (power), 192 VSS (power), 194 VDD (power), 195 VDD (power), 198 VSS (power), 200 VSS (power), 202 VDD (power), 203 VDD (power), 205 VDD (power), 207 VSS (power), 209 VSS (power), 210 VSS (power), 212 VDD (power), 216 VSS (power), 217 VSS (power), 219 VDD (power), 220 VDD (power), 221 VDD (power), 225 VSS (power), 227 VDD (power), 228 VDD (power), 232 VSS (power), 233 VSS (power), 235 VDD (power), 238 VSS (power), 240 VSS (power), 242 VDD (power), 243 VDD (power), 245 VSS (power), 248 VSS (power), 249 VSS (power), 251 VDD (power), 252 VDD (power), 253 VDD (power), 257 VSS (power), 258 VSS (power), 259 VSS (power), 261 VDD (power), 262 VDD (power), 263 VDD (power), 266 VDD (power), 268 VSS (power), 269 VSS (power), 271 VDD (power), 272 VDD (power), 274 VSS (power), 277 VSS (power), 278 VSS (power), 279 VSS (power), 281 VDD (power), 282 VDD (power), 283 VDD (power), 287 VSS (power), 288 VDD (power), 290 VSS (power), 291 VSS (power), 293 VDD (power), 295 VSS (power), 297 VDD (power), 299 VSS (power), 301 VDD (power), 304 VSS (power), 305 VSS (power), 307 VSS (power), 309 VDD (power), 310 VDD (power), 311 VDD (power), 313 VDD (power), 315 VSS (power), 318 VDD (power), 320 VSS (power)

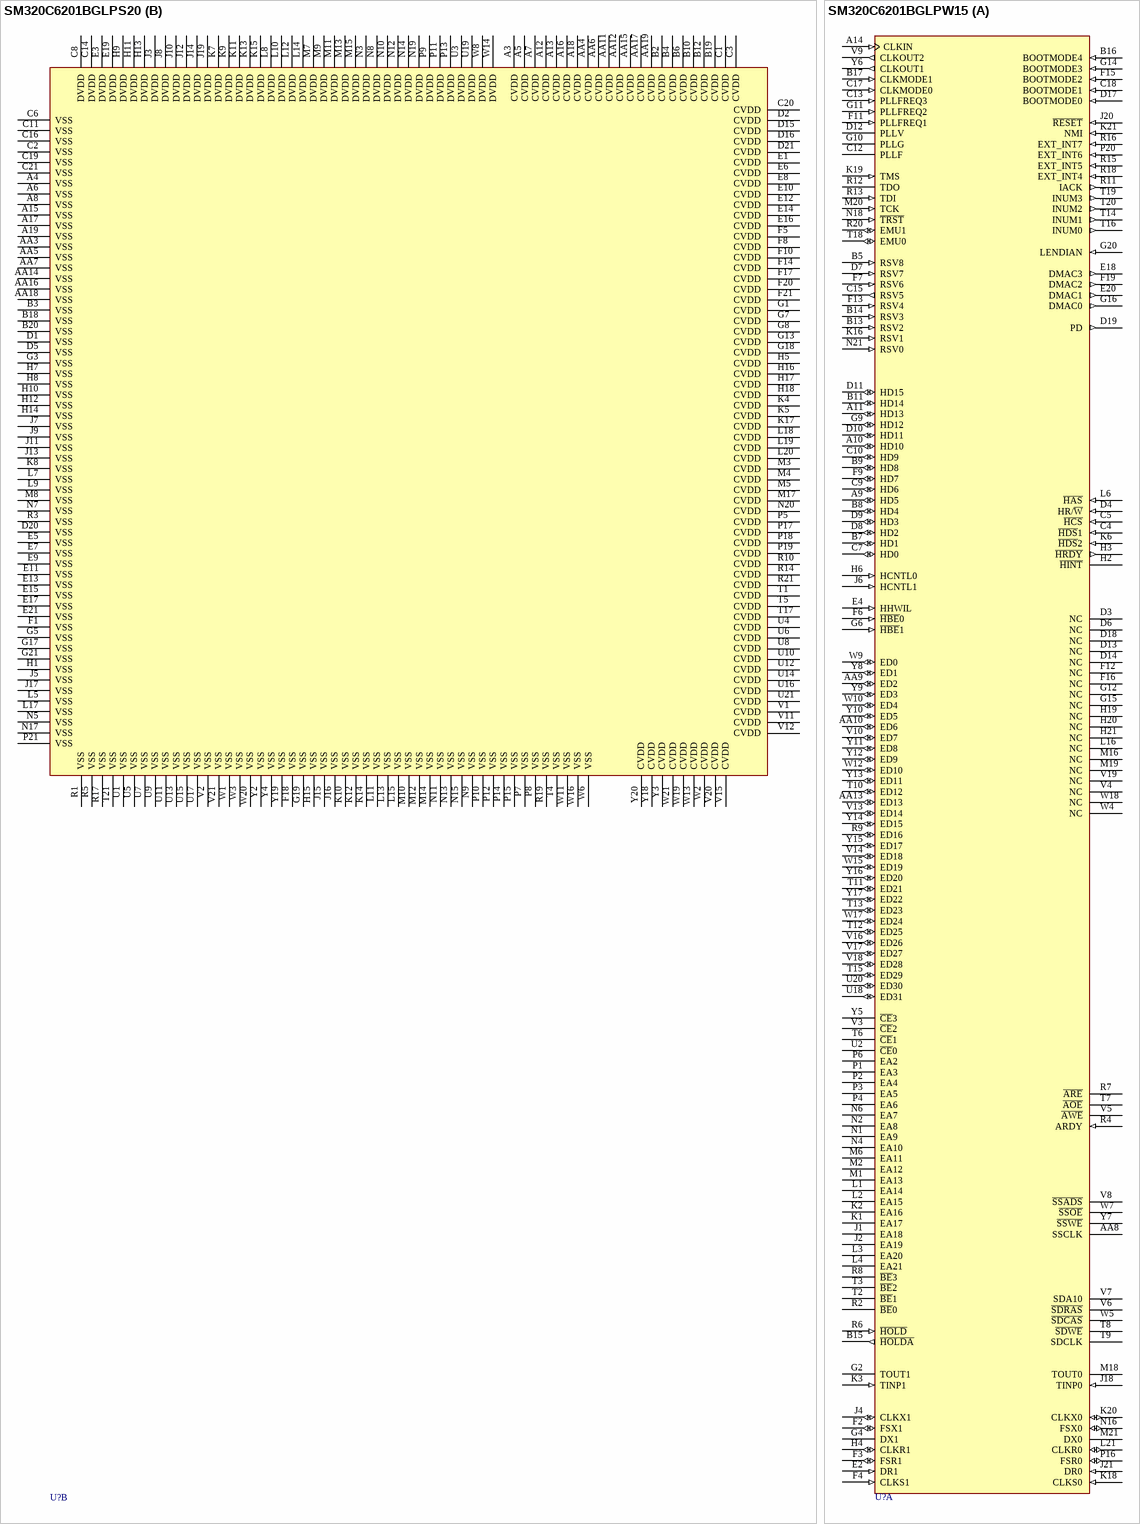
[diagram p57: symbols SM320C6201BGLPS20 to SM320C6201BGLPW15]

## SM320C6201BGLPS20
designator U?
Fixed-Point 3.3V DSP; Note: PLLV and PLLG are not part of external voltage supply or ground.; Published: 25-Jan-2001; LatestRevisionDate: 13-Apr-2006; LatestRevisionNote: IPC-7351 Footprint Added.; DatasheetVersion: Jan-1999; PackageVersion: Sep-1998; PackageReference: GLP429; Publisher: Altium Limited; PackageDescription: 429-Ball Ceramic Ball Grid Array 1.27 mm Pitch; ComponentLink1Description: Manufacturer Link; ComponentLink1URL: http://www.ti.com/; ComponentLink2Description: Datasheet; ComponentLink2URL: http://www-s.ti.com/sc/ds/sm320c6201b.pdf
footprint GLP429 (BGA, 429-Leads, Body 27x27mm, Pitch 1.27mm)
3D model SM320C6201-GLP429 (429-Ball Ceramic Ball Grid Array 1.27 mm Pitch)
part A pins: A9 HD5 (io), A10 HD10 (io), A11 HD13 (io), A14 CLKIN (in), AA8 SSCLK (hiz), AA9 ED2 (io), AA10 ED6 (io), AA13 ED13 (io), B5 RSV8 (in), B7 HD1 (io), B8 HD4 (io), B9 HD8 (io), B11 HD14 (io), B13 RSV2 (in), B14 RSV3 (in), B15 ~{HOLDA} (out), B16 BOOTMODE4 (in), B17 CLKMODE1 (in), C4 ~{HDS}1 (in), C5 ~{HCS} (in), C7 HD0 (io), C9 HD6 (io), C10 HD9 (io), C12 PLLF, C13 PLLFREQ3 (in), C15 RSV5 (out), C17 CLKMODE0 (in), C18 BOOTMODE1 (in), D3 NC, D4 HR/~{W} (in), D6 NC, D7 RSV7 (in), D8 HD2 (io), D9 HD3 (io), D10 HD11 (io), D11 HD15 (io), D12 PLLV (power), D13 NC, D14 NC, D17 BOOTMODE0 (in), D18 NC, D19 PD (out), E2 DR1 (in), E4 HHWIL (in), E18 DMAC3 (out), E20 DMAC1 (out), F2 FSX1 (io), F3 FSR1 (io), F4 CLKS1 (in), F6 ~{HBE}0 (in), F7 RSV6 (in), F9 HD7 (io), F11 PLLFREQ1 (in), F12 NC, F13 RSV4 (in), F15 BOOTMODE2 (in), F16 NC, F19 DMAC2 (out), G2 TOUT1 (hiz), G4 DX1 (hiz), G6 ~{HBE}1 (in), G9 HD12 (io), G10 PLLG (power), G11 PLLFREQ2 (in), G12 NC, G14 BOOTMODE3 (in), G15 NC, G16 DMAC0 (out), G20 LENDIAN (in), H2 ~{HINT} (hiz), H3 ~{HRDY} (out), H4 CLKR1 (io), H6 HCNTL0 (in), H19 NC, H20 NC, H21 NC, J1 EA18 (hiz), J2 EA19 (hiz), J4 CLKX1 (io), J6 HCNTL1 (in), J18 TINP0 (in), J20 ~{RESET} (in), J21 DR0 (in), K1 EA17 (hiz), K2 EA16 (hiz), K3 TINP1 (in), K6 ~{HDS}2 (in), K16 RSV1 (in), K18 CLKS0 (in), K19 TMS (in), K20 CLKX0 (io), K21 NMI (in), L1 EA14 (hiz), L2 EA15 (hiz), L3 EA20 (hiz), L4 EA21 (hiz), L6 ~{HAS} (in), L16 NC, L21 CLKR0 (io), M1 EA13 (hiz), M2 EA12 (hiz), M6 EA11 (hiz), M16 NC, M18 TOUT0 (hiz), M19 NC, M20 TCK (in), M21 DX0 (hiz), N1 EA9 (hiz), N2 EA8 (hiz), N4 EA10 (hiz), N6 EA7 (hiz), N16 FSX0 (io), N18 ~{TRST} (in), N21 RSV0 (in), P1 EA3 (hiz), P2 EA4 (hiz), P3 EA5 (hiz), P4 EA6 (hiz), P6 EA2 (hiz), P16 FSR0 (io), P20 EXT_INT6 (in), R2 ~{BE}0 (hiz), R4 ARDY (in), R6 ~{HOLD} (in), R7 ~{ARE} (hiz), R8 ~{BE}3 (hiz), R9 ED16 (io), R11 IACK (out), R12 TDO (hiz), R13 TDI (in), R15 EXT_INT5 (in), R16 EXT_INT7 (in), R18 EXT_INT4 (in), R20 EMU1 (io), T2 ~{BE}1 (hiz), T3 ~{BE}2 (hiz), T6 ~{CE}1 (hiz), T7 ~{AOE} (hiz), T8 ~{SDWE} (hiz), T9 SDCLK (hiz), T10 ED12 (io), T11 ED21 (io), T12 ED25 (io), T13 ED23 (io), T14 INUM1 (out), T15 ED29 (io), T16 INUM0 (out), T18 EMU0 (io), T19 INUM3 (out), T20 INUM2 (out), U2 ~{CE}0 (hiz), U18 ED31 (io), U20 ED30 (io), V3 ~{CE}2 (hiz), V4 NC, V5 ~{AWE} (hiz), V6 ~{SDRAS} (hiz), V7 SDA10 (hiz), V8 ~{SSADS} (hiz), V9 CLKOUT2 (out), V10 ED7 (io), V13 ED14 (io), V14 ED18 (io), V16 ED26 (io), V17 ED27 (io), V18 ED28 (io), V19 NC, W4 NC, W5 ~{SDCAS} (hiz), W7 ~{SSOE} (hiz), W9 ED0 (io), W10 ED4 (io), W12 ED10 (io), W15 ED19 (io), W17 ED24 (io), W18 NC, Y5 ~{CE}3 (hiz), Y6 CLKOUT1 (out), Y7 ~{SSWE} (hiz), Y8 ED1 (io), Y9 ED3 (io), Y10 ED5 (io), Y11 ED8 (io), Y12 ED9 (io), Y13 ED11 (io), Y14 ED15 (io), Y15 ED17 (io), Y16 ED20 (io), Y17 ED22 (io)
part B pins: A3 CVDD (power), A4 VSS (power), A5 CVDD (power), A6 VSS (power), A7 CVDD (power), A8 VSS (power), A12 CVDD (power), A13 CVDD (power), A15 VSS (power), A16 CVDD (power), A17 VSS (power), A18 CVDD (power), A19 VSS (power), AA3 VSS (power), AA4 CVDD (power), AA5 VSS (power), AA6 CVDD (power), AA7 VSS (power), AA11 CVDD (power), AA12 CVDD (power), AA14 VSS (power), AA15 CVDD (power), AA16 VSS (power), AA17 CVDD (power), AA18 VSS (power), AA19 CVDD (power), B2 CVDD (power), B3 VSS (power), B4 CVDD (power), B6 CVDD (power), B10 CVDD (power), B12 CVDD (power), B18 VSS (power), B19 CVDD (power), B20 VSS (power), C1 CVDD (power), C2 VSS (power), C3 CVDD (power), C6 VSS (power), C8 DVDD (power), C11 VSS (power), C14 DVDD (power), C16 VSS (power), C19 VSS (power), C20 CVDD (power), C21 VSS (power), D1 VSS (power), D2 CVDD (power), D5 VSS (power), D15 CVDD (power), D16 CVDD (power), D20 VSS (power), D21 CVDD (power), E1 CVDD (power), E3 DVDD (power), E5 VSS (power), E6 CVDD (power), E7 VSS (power), E8 CVDD (power), E9 VSS (power), E10 CVDD (power), E11 VSS (power), E12 CVDD (power), E13 VSS (power), E14 CVDD (power), E15 VSS (power), E16 CVDD (power), E17 VSS (power), E19 DVDD (power), E21 VSS (power), F1 VSS (power), F5 CVDD (power), F8 CVDD (power), F10 CVDD (power), F14 CVDD (power), F17 CVDD (power), F18 VSS (power), F20 CVDD (power), F21 CVDD (power), G1 CVDD (power), G3 VSS (power), G5 VSS (power), G7 CVDD (power), G8 CVDD (power), G13 CVDD (power), G17 VSS (power), G18 CVDD (power), G19 VSS (power), G21 VSS (power), H1 VSS (power), H5 CVDD (power), H7 VSS (power), H8 VSS (power), H9 DVDD (power), H10 VSS (power), H11 DVDD (power), H12 VSS (power), H13 DVDD (power), H14 VSS (power), H15 VSS (power), H16 CVDD (power), H17 CVDD (power), H18 CVDD (power), J3 DVDD (power), J5 VSS (power), J7 VSS (power), J8 DVDD (power), J9 VSS (power), J10 DVDD (power), J11 VSS (power), J12 DVDD (power), J13 VSS (power), J14 DVDD (power), J15 VSS (power), J16 VSS (power), J17 VSS (power), J19 DVDD (power), K4 CVDD (power), K5 CVDD (power), K7 DVDD (power), K8 VSS (power), K9 DVDD (power), K10 VSS (power), K11 DVDD (power), K12 VSS (power), K13 DVDD (power), K14 VSS (power), K15 DVDD (power), K17 CVDD (power), L5 VSS (power), L7 VSS (power), L8 DVDD (power), L9 VSS (power), L10 DVDD (power), L11 VSS (power), L12 DVDD (power), L13 VSS (power), L14 DVDD (power), L15 VSS (power), L17 VSS (power), L18 CVDD (power), L19 CVDD (power), L20 CVDD (power), M3 CVDD (power), M4 CVDD (power), M5 CVDD (power), M7 DVDD (power), M8 VSS (power), M9 DVDD (power), M10 VSS (power), M11 DVDD (power), M12 VSS (power), M13 DVDD (power), M14 VSS (power), M15 DVDD (power), M17 CVDD (power), N3 DVDD (power), N5 VSS (power), N7 VSS (power), N8 DVDD (power), N9 VSS (power), N10 DVDD (power), N11 VSS (power), N12 DVDD (power), N13 VSS (power), N14 DVDD (power), N15 VSS (power), N17 VSS (power), N19 DVDD (power), N20 CVDD (power), P5 CVDD (power), P7 VSS (power), P8 VSS (power), P9 DVDD (power), P10 VSS (power), P11 DVDD (power), P12 VSS (power), P13 DVDD (power), P14 VSS (power), P15 VSS (power), P17 CVDD (power), P18 CVDD (power), P19 CVDD (power), P21 VSS (power), R1 VSS (power), R3 VSS (power), R5 VSS (power), R10 CVDD (power), R14 CVDD (power), R17 VSS (power), R19 VSS (power), R21 CVDD (power), T1 CVDD (power), T4 VSS (power), T5 CVDD (power), T17 CVDD (power), T21 VSS (power), U1 VSS (power), U3 DVDD (power), U4 CVDD (power), U5 VSS (power), U6 CVDD (power), U7 VSS (power), U8 CVDD (power), U9 VSS (power), U10 CVDD (power), U11 VSS (power), U12 CVDD (power), U13 VSS (power), U14 CVDD (power), U15 VSS (power), U16 CVDD (power), U17 VSS (power), U19 DVDD (power), U21 CVDD (power), V1 CVDD (power), V2 VSS (power), V11 CVDD (power), V12 CVDD (power), V15 CVDD (power), V20 CVDD (power), V21 VSS (power), W1 VSS (power), W2 CVDD (power), W3 VSS (power), W6 VSS (power), W8 DVDD (power), W11 VSS (power), W13 CVDD (power), W14 DVDD (power), W16 VSS (power), W19 CVDD (power), W20 VSS (power), W21 CVDD (power), Y2 VSS (power), Y3 CVDD (power), Y4 VSS (power), Y18 CVDD (power), Y19 VSS (power), Y20 CVDD (power)

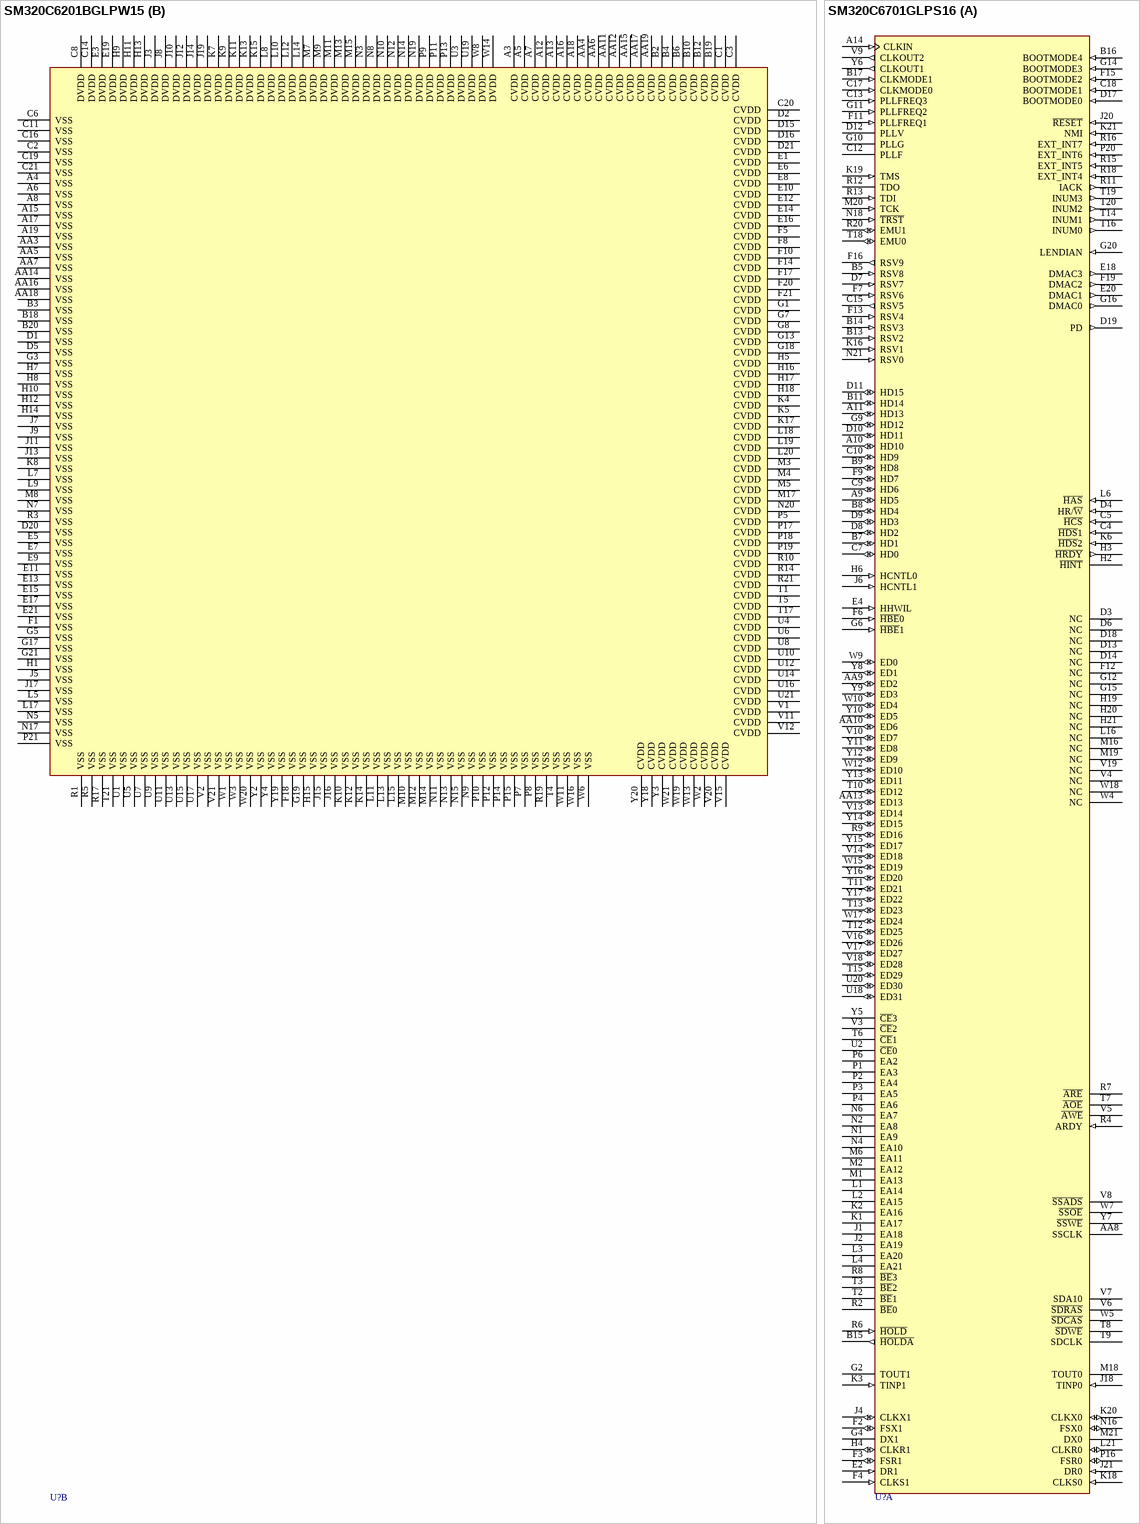
[diagram p58: symbols SM320C6201BGLPW15 to SM320C6701GLPS16]

## SM320C6201BGLPW15
designator U?
Fixed-Point 3.3V DSP; Note: PLLV and PLLG are not part of external voltage supply or ground.; Published: 25-Jan-2001; LatestRevisionDate: 13-Apr-2006; LatestRevisionNote: IPC-7351 Footprint Added.; DatasheetVersion: Jan-1999; PackageVersion: Sep-1998; PackageReference: GLP429; Publisher: Altium Limited; PackageDescription: 429-Ball Ceramic Ball Grid Array 1.27 mm Pitch; ComponentLink1Description: Manufacturer Link; ComponentLink1URL: http://www.ti.com/; ComponentLink2Description: Datasheet; ComponentLink2URL: http://www-s.ti.com/sc/ds/sm320c6201b.pdf
footprint GLP429 (BGA, 429-Leads, Body 27x27mm, Pitch 1.27mm)
3D model SM320C6201-GLP429 (429-Ball Ceramic Ball Grid Array 1.27 mm Pitch)
part A pins: A9 HD5 (io), A10 HD10 (io), A11 HD13 (io), A14 CLKIN (in), AA8 SSCLK (hiz), AA9 ED2 (io), AA10 ED6 (io), AA13 ED13 (io), B5 RSV8 (in), B7 HD1 (io), B8 HD4 (io), B9 HD8 (io), B11 HD14 (io), B13 RSV2 (in), B14 RSV3 (in), B15 ~{HOLDA} (out), B16 BOOTMODE4 (in), B17 CLKMODE1 (in), C4 ~{HDS}1 (in), C5 ~{HCS} (in), C7 HD0 (io), C9 HD6 (io), C10 HD9 (io), C12 PLLF, C13 PLLFREQ3 (in), C15 RSV5 (out), C17 CLKMODE0 (in), C18 BOOTMODE1 (in), D3 NC, D4 HR/~{W} (in), D6 NC, D7 RSV7 (in), D8 HD2 (io), D9 HD3 (io), D10 HD11 (io), D11 HD15 (io), D12 PLLV (power), D13 NC, D14 NC, D17 BOOTMODE0 (in), D18 NC, D19 PD (out), E2 DR1 (in), E4 HHWIL (in), E18 DMAC3 (out), E20 DMAC1 (out), F2 FSX1 (io), F3 FSR1 (io), F4 CLKS1 (in), F6 ~{HBE}0 (in), F7 RSV6 (in), F9 HD7 (io), F11 PLLFREQ1 (in), F12 NC, F13 RSV4 (in), F15 BOOTMODE2 (in), F16 NC, F19 DMAC2 (out), G2 TOUT1 (hiz), G4 DX1 (hiz), G6 ~{HBE}1 (in), G9 HD12 (io), G10 PLLG (power), G11 PLLFREQ2 (in), G12 NC, G14 BOOTMODE3 (in), G15 NC, G16 DMAC0 (out), G20 LENDIAN (in), H2 ~{HINT} (hiz), H3 ~{HRDY} (out), H4 CLKR1 (io), H6 HCNTL0 (in), H19 NC, H20 NC, H21 NC, J1 EA18 (hiz), J2 EA19 (hiz), J4 CLKX1 (io), J6 HCNTL1 (in), J18 TINP0 (in), J20 ~{RESET} (in), J21 DR0 (in), K1 EA17 (hiz), K2 EA16 (hiz), K3 TINP1 (in), K6 ~{HDS}2 (in), K16 RSV1 (in), K18 CLKS0 (in), K19 TMS (in), K20 CLKX0 (io), K21 NMI (in), L1 EA14 (hiz), L2 EA15 (hiz), L3 EA20 (hiz), L4 EA21 (hiz), L6 ~{HAS} (in), L16 NC, L21 CLKR0 (io), M1 EA13 (hiz), M2 EA12 (hiz), M6 EA11 (hiz), M16 NC, M18 TOUT0 (hiz), M19 NC, M20 TCK (in), M21 DX0 (hiz), N1 EA9 (hiz), N2 EA8 (hiz), N4 EA10 (hiz), N6 EA7 (hiz), N16 FSX0 (io), N18 ~{TRST} (in), N21 RSV0 (in), P1 EA3 (hiz), P2 EA4 (hiz), P3 EA5 (hiz), P4 EA6 (hiz), P6 EA2 (hiz), P16 FSR0 (io), P20 EXT_INT6 (in), R2 ~{BE}0 (hiz), R4 ARDY (in), R6 ~{HOLD} (in), R7 ~{ARE} (hiz), R8 ~{BE}3 (hiz), R9 ED16 (io), R11 IACK (out), R12 TDO (hiz), R13 TDI (in), R15 EXT_INT5 (in), R16 EXT_INT7 (in), R18 EXT_INT4 (in), R20 EMU1 (io), T2 ~{BE}1 (hiz), T3 ~{BE}2 (hiz), T6 ~{CE}1 (hiz), T7 ~{AOE} (hiz), T8 ~{SDWE} (hiz), T9 SDCLK (hiz), T10 ED12 (io), T11 ED21 (io), T12 ED25 (io), T13 ED23 (io), T14 INUM1 (out), T15 ED29 (io), T16 INUM0 (out), T18 EMU0 (io), T19 INUM3 (out), T20 INUM2 (out), U2 ~{CE}0 (hiz), U18 ED31 (io), U20 ED30 (io), V3 ~{CE}2 (hiz), V4 NC, V5 ~{AWE} (hiz), V6 ~{SDRAS} (hiz), V7 SDA10 (hiz), V8 ~{SSADS} (hiz), V9 CLKOUT2 (out), V10 ED7 (io), V13 ED14 (io), V14 ED18 (io), V16 ED26 (io), V17 ED27 (io), V18 ED28 (io), V19 NC, W4 NC, W5 ~{SDCAS} (hiz), W7 ~{SSOE} (hiz), W9 ED0 (io), W10 ED4 (io), W12 ED10 (io), W15 ED19 (io), W17 ED24 (io), W18 NC, Y5 ~{CE}3 (hiz), Y6 CLKOUT1 (out), Y7 ~{SSWE} (hiz), Y8 ED1 (io), Y9 ED3 (io), Y10 ED5 (io), Y11 ED8 (io), Y12 ED9 (io), Y13 ED11 (io), Y14 ED15 (io), Y15 ED17 (io), Y16 ED20 (io), Y17 ED22 (io)
part B pins: A3 CVDD (power), A4 VSS (power), A5 CVDD (power), A6 VSS (power), A7 CVDD (power), A8 VSS (power), A12 CVDD (power), A13 CVDD (power), A15 VSS (power), A16 CVDD (power), A17 VSS (power), A18 CVDD (power), A19 VSS (power), AA3 VSS (power), AA4 CVDD (power), AA5 VSS (power), AA6 CVDD (power), AA7 VSS (power), AA11 CVDD (power), AA12 CVDD (power), AA14 VSS (power), AA15 CVDD (power), AA16 VSS (power), AA17 CVDD (power), AA18 VSS (power), AA19 CVDD (power), B2 CVDD (power), B3 VSS (power), B4 CVDD (power), B6 CVDD (power), B10 CVDD (power), B12 CVDD (power), B18 VSS (power), B19 CVDD (power), B20 VSS (power), C1 CVDD (power), C2 VSS (power), C3 CVDD (power), C6 VSS (power), C8 DVDD (power), C11 VSS (power), C14 DVDD (power), C16 VSS (power), C19 VSS (power), C20 CVDD (power), C21 VSS (power), D1 VSS (power), D2 CVDD (power), D5 VSS (power), D15 CVDD (power), D16 CVDD (power), D20 VSS (power), D21 CVDD (power), E1 CVDD (power), E3 DVDD (power), E5 VSS (power), E6 CVDD (power), E7 VSS (power), E8 CVDD (power), E9 VSS (power), E10 CVDD (power), E11 VSS (power), E12 CVDD (power), E13 VSS (power), E14 CVDD (power), E15 VSS (power), E16 CVDD (power), E17 VSS (power), E19 DVDD (power), E21 VSS (power), F1 VSS (power), F5 CVDD (power), F8 CVDD (power), F10 CVDD (power), F14 CVDD (power), F17 CVDD (power), F18 VSS (power), F20 CVDD (power), F21 CVDD (power), G1 CVDD (power), G3 VSS (power), G5 VSS (power), G7 CVDD (power), G8 CVDD (power), G13 CVDD (power), G17 VSS (power), G18 CVDD (power), G19 VSS (power), G21 VSS (power), H1 VSS (power), H5 CVDD (power), H7 VSS (power), H8 VSS (power), H9 DVDD (power), H10 VSS (power), H11 DVDD (power), H12 VSS (power), H13 DVDD (power), H14 VSS (power), H15 VSS (power), H16 CVDD (power), H17 CVDD (power), H18 CVDD (power), J3 DVDD (power), J5 VSS (power), J7 VSS (power), J8 DVDD (power), J9 VSS (power), J10 DVDD (power), J11 VSS (power), J12 DVDD (power), J13 VSS (power), J14 DVDD (power), J15 VSS (power), J16 VSS (power), J17 VSS (power), J19 DVDD (power), K4 CVDD (power), K5 CVDD (power), K7 DVDD (power), K8 VSS (power), K9 DVDD (power), K10 VSS (power), K11 DVDD (power), K12 VSS (power), K13 DVDD (power), K14 VSS (power), K15 DVDD (power), K17 CVDD (power), L5 VSS (power), L7 VSS (power), L8 DVDD (power), L9 VSS (power), L10 DVDD (power), L11 VSS (power), L12 DVDD (power), L13 VSS (power), L14 DVDD (power), L15 VSS (power), L17 VSS (power), L18 CVDD (power), L19 CVDD (power), L20 CVDD (power), M3 CVDD (power), M4 CVDD (power), M5 CVDD (power), M7 DVDD (power), M8 VSS (power), M9 DVDD (power), M10 VSS (power), M11 DVDD (power), M12 VSS (power), M13 DVDD (power), M14 VSS (power), M15 DVDD (power), M17 CVDD (power), N3 DVDD (power), N5 VSS (power), N7 VSS (power), N8 DVDD (power), N9 VSS (power), N10 DVDD (power), N11 VSS (power), N12 DVDD (power), N13 VSS (power), N14 DVDD (power), N15 VSS (power), N17 VSS (power), N19 DVDD (power), N20 CVDD (power), P5 CVDD (power), P7 VSS (power), P8 VSS (power), P9 DVDD (power), P10 VSS (power), P11 DVDD (power), P12 VSS (power), P13 DVDD (power), P14 VSS (power), P15 VSS (power), P17 CVDD (power), P18 CVDD (power), P19 CVDD (power), P21 VSS (power), R1 VSS (power), R3 VSS (power), R5 VSS (power), R10 CVDD (power), R14 CVDD (power), R17 VSS (power), R19 VSS (power), R21 CVDD (power), T1 CVDD (power), T4 VSS (power), T5 CVDD (power), T17 CVDD (power), T21 VSS (power), U1 VSS (power), U3 DVDD (power), U4 CVDD (power), U5 VSS (power), U6 CVDD (power), U7 VSS (power), U8 CVDD (power), U9 VSS (power), U10 CVDD (power), U11 VSS (power), U12 CVDD (power), U13 VSS (power), U14 CVDD (power), U15 VSS (power), U16 CVDD (power), U17 VSS (power), U19 DVDD (power), U21 CVDD (power), V1 CVDD (power), V2 VSS (power), V11 CVDD (power), V12 CVDD (power), V15 CVDD (power), V20 CVDD (power), V21 VSS (power), W1 VSS (power), W2 CVDD (power), W3 VSS (power), W6 VSS (power), W8 DVDD (power), W11 VSS (power), W13 CVDD (power), W14 DVDD (power), W16 VSS (power), W19 CVDD (power), W20 VSS (power), W21 CVDD (power), Y2 VSS (power), Y3 CVDD (power), Y4 VSS (power), Y18 CVDD (power), Y19 VSS (power), Y20 CVDD (power)

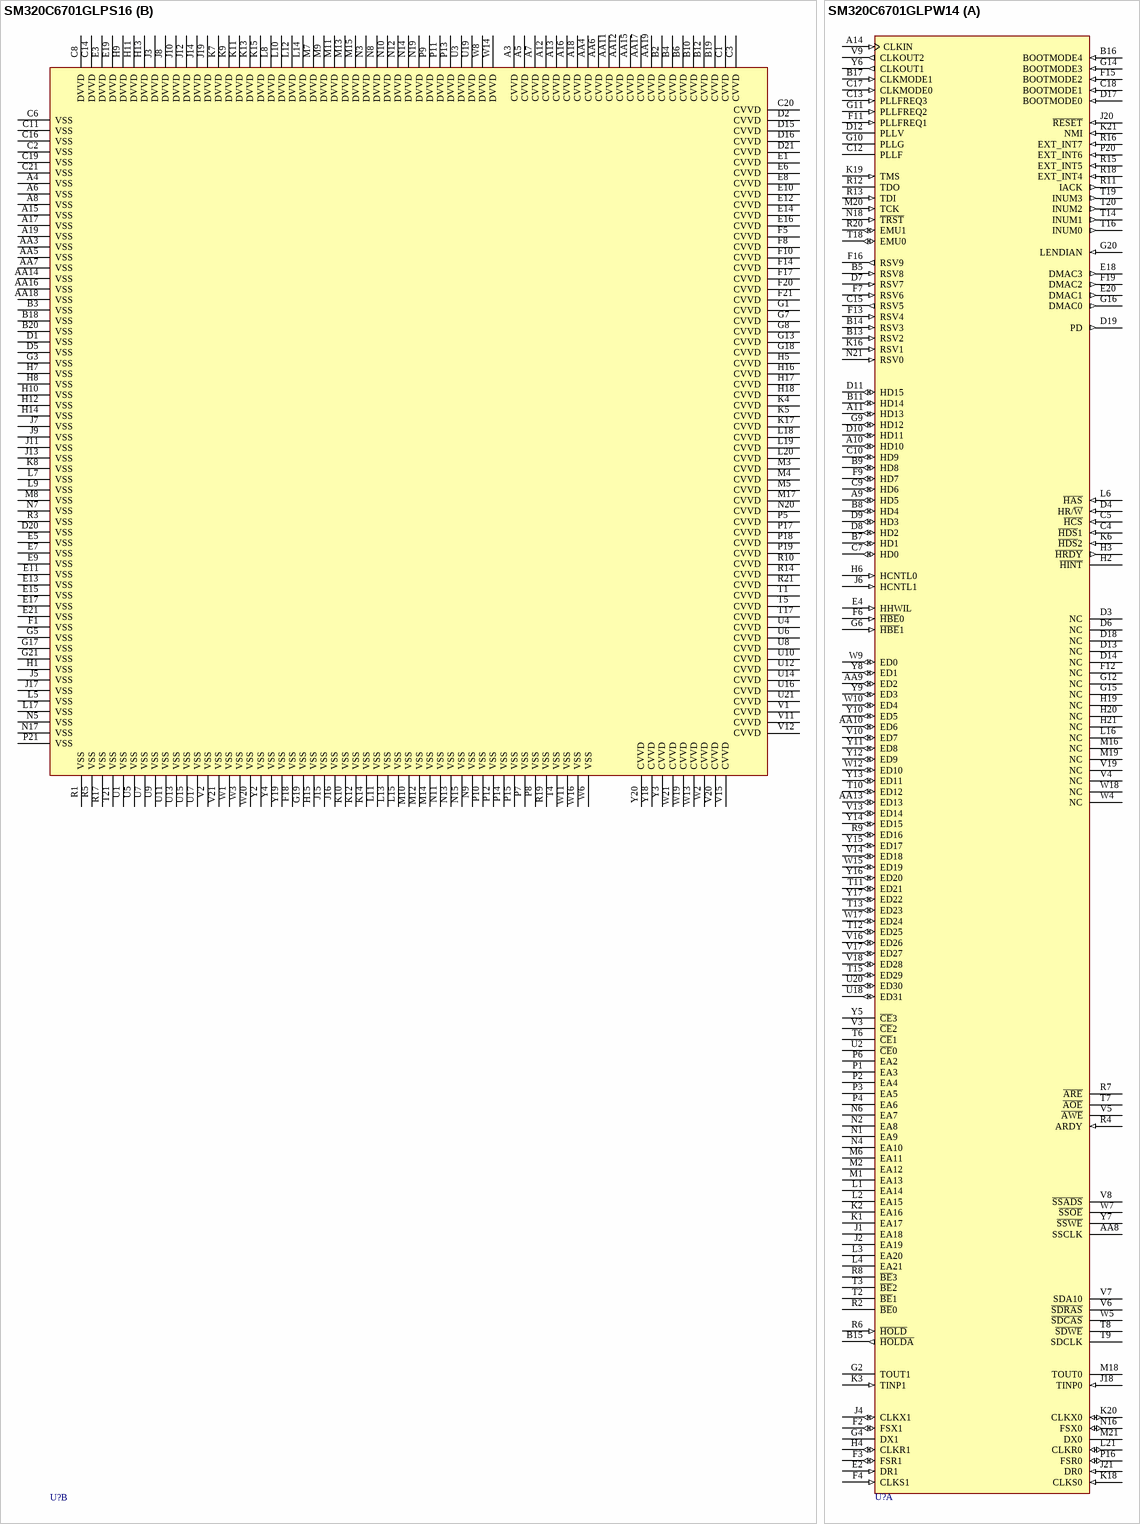
[diagram p59: symbols SM320C6701GLPS16 to SM320C6701GLPW14]

## SM320C6701GLPS16
designator U?
Floating-Point, 1.9/3.3V DSP; Note: PLLV and PLLG are not part of external voltage supply or ground.; Published: 25-Jan-2001; LatestRevisionDate: 13-Apr-2006; LatestRevisionNote: IPC-7351 Footprint Added.; DatasheetVersion: Apr-2000; PackageVersion: Sep-1998; PackageReference: GLP429; Publisher: Altium Limited; PackageDescription: 429-Ball Ceramic Ball Grid Array 1.27 mm Pitch; ComponentLink1Description: Manufacturer Link; ComponentLink1URL: http://www.ti.com/; ComponentLink2Description: Datasheet; ComponentLink2URL: http://www-s.ti.com/sc/ds/smj320c6701.pdf
footprint GLP429 (BGA, 429-Leads, Body 27x27mm, Pitch 1.27mm)
3D model SM320C6701-GLP429 (429-Ball Ceramic Ball Grid Array 1.27 mm Pitch)
part A pins: A9 HD5 (io), A10 HD10 (io), A11 HD13 (io), A14 CLKIN (in), AA8 SSCLK (hiz), AA9 ED2 (io), AA10 ED6 (io), AA13 ED13 (io), B5 RSV8 (in), B7 HD1 (io), B8 HD4 (io), B9 HD8 (io), B11 HD14 (io), B13 RSV2 (in), B14 RSV3 (in), B15 ~{HOLDA} (out), B16 BOOTMODE4 (in), B17 CLKMODE1 (in), C4 ~{HDS}1 (in), C5 ~{HCS} (in), C7 HD0 (io), C9 HD6 (io), C10 HD9 (io), C12 PLLF, C13 PLLFREQ3 (in), C15 RSV5 (out), C17 CLKMODE0 (in), C18 BOOTMODE1 (in), D3 NC, D4 HR/~{W} (in), D6 NC, D7 RSV7 (in), D8 HD2 (io), D9 HD3 (io), D10 HD11 (io), D11 HD15 (io), D12 PLLV (power), D13 NC, D14 NC, D17 BOOTMODE0 (in), D18 NC, D19 PD (out), E2 DR1 (in), E4 HHWIL (in), E18 DMAC3 (out), E20 DMAC1 (out), F2 FSX1 (io), F3 FSR1 (io), F4 CLKS1 (in), F6 ~{HBE}0 (in), F7 RSV6 (in), F9 HD7 (io), F11 PLLFREQ1 (in), F12 NC, F13 RSV4 (in), F15 BOOTMODE2 (in), F16 RSV9 (out), F19 DMAC2 (out), G2 TOUT1 (hiz), G4 DX1 (hiz), G6 ~{HBE}1 (in), G9 HD12 (io), G10 PLLG (power), G11 PLLFREQ2 (in), G12 NC, G14 BOOTMODE3 (in), G15 NC, G16 DMAC0 (out), G20 LENDIAN (in), H2 ~{HINT} (hiz), H3 ~{HRDY} (out), H4 CLKR1 (io), H6 HCNTL0 (in), H19 NC, H20 NC, H21 NC, J1 EA18 (hiz), J2 EA19 (hiz), J4 CLKX1 (io), J6 HCNTL1 (in), J18 TINP0 (in), J20 ~{RESET} (in), J21 DR0 (in), K1 EA17 (hiz), K2 EA16 (hiz), K3 TINP1 (in), K6 ~{HDS}2 (in), K16 RSV1 (in), K18 CLKS0 (in), K19 TMS (in), K20 CLKX0 (io), K21 NMI (in), L1 EA14 (hiz), L2 EA15 (hiz), L3 EA20 (hiz), L4 EA21 (hiz), L6 ~{HAS} (in), L16 NC, L21 CLKR0 (io), M1 EA13 (hiz), M2 EA12 (hiz), M6 EA11 (hiz), M16 NC, M18 TOUT0 (hiz), M19 NC, M20 TCK (in), M21 DX0 (hiz), N1 EA9 (hiz), N2 EA8 (hiz), N4 EA10 (hiz), N6 EA7 (hiz), N16 FSX0 (io), N18 ~{TRST} (in), N21 RSV0 (in), P1 EA3 (hiz), P2 EA4 (hiz), P3 EA5 (hiz), P4 EA6 (hiz), P6 EA2 (hiz), P16 FSR0 (io), P20 EXT_INT6 (in), R2 ~{BE}0 (hiz), R4 ARDY (in), R6 ~{HOLD} (in), R7 ~{ARE} (hiz), R8 ~{BE}3 (hiz), R9 ED16 (io), R11 IACK (out), R12 TDO (hiz), R13 TDI (in), R15 EXT_INT5 (in), R16 EXT_INT7 (in), R18 EXT_INT4 (in), R20 EMU1 (io), T2 ~{BE}1 (hiz), T3 ~{BE}2 (hiz), T6 ~{CE}1 (hiz), T7 ~{AOE} (hiz), T8 ~{SDWE} (hiz), T9 SDCLK (hiz), T10 ED12 (io), T11 ED21 (io), T12 ED25 (io), T13 ED23 (io), T14 INUM1 (out), T15 ED29 (io), T16 INUM0 (out), T18 EMU0 (io), T19 INUM3 (out), T20 INUM2 (out), U2 ~{CE}0 (hiz), U18 ED31 (io), U20 ED30 (io), V3 ~{CE}2 (hiz), V4 NC, V5 ~{AWE} (hiz), V6 ~{SDRAS} (hiz), V7 SDA10 (hiz), V8 ~{SSADS} (hiz), V9 CLKOUT2 (out), V10 ED7 (io), V13 ED14 (io), V14 ED18 (io), V16 ED26 (io), V17 ED27 (io), V18 ED28 (io), V19 NC, W4 NC, W5 ~{SDCAS} (hiz), W7 ~{SSOE} (hiz), W9 ED0 (io), W10 ED4 (io), W12 ED10 (io), W15 ED19 (io), W17 ED24 (io), W18 NC, Y5 ~{CE}3 (hiz), Y6 CLKOUT1 (out), Y7 ~{SSWE} (hiz), Y8 ED1 (io), Y9 ED3 (io), Y10 ED5 (io), Y11 ED8 (io), Y12 ED9 (io), Y13 ED11 (io), Y14 ED15 (io), Y15 ED17 (io), Y16 ED20 (io), Y17 ED22 (io)
part B pins: A3 CVVD (power), A4 VSS (power), A5 CVVD (power), A6 VSS (power), A7 CVVD (power), A8 VSS (power), A12 CVVD (power), A13 CVVD (power), A15 VSS (power), A16 CVVD (power), A17 VSS (power), A18 CVVD (power), A19 VSS (power), AA3 VSS (power), AA4 CVVD (power), AA5 VSS (power), AA6 CVVD (power), AA7 VSS (power), AA11 CVVD (power), AA12 CVVD (power), AA14 VSS (power), AA15 CVVD (power), AA16 VSS (power), AA17 CVVD (power), AA18 VSS (power), AA19 CVVD (power), B2 CVVD (power), B3 VSS (power), B4 CVVD (power), B6 CVVD (power), B10 CVVD (power), B12 CVVD (power), B18 VSS (power), B19 CVVD (power), B20 VSS (power), C1 CVVD (power), C2 VSS (power), C3 CVVD (power), C6 VSS (power), C8 DVVD (power), C11 VSS (power), C14 DVVD (power), C16 VSS (power), C19 VSS (power), C20 CVVD (power), C21 VSS (power), D1 VSS (power), D2 CVVD (power), D5 VSS (power), D15 CVVD (power), D16 CVVD (power), D20 VSS (power), D21 CVVD (power), E1 CVVD (power), E3 DVVD (power), E5 VSS (power), E6 CVVD (power), E7 VSS (power), E8 CVVD (power), E9 VSS (power), E10 CVVD (power), E11 VSS (power), E12 CVVD (power), E13 VSS (power), E14 CVVD (power), E15 VSS (power), E16 CVVD (power), E17 VSS (power), E19 DVVD (power), E21 VSS (power), F1 VSS (power), F5 CVVD (power), F8 CVVD (power), F10 CVVD (power), F14 CVVD (power), F17 CVVD (power), F18 VSS (power), F20 CVVD (power), F21 CVVD (power), G1 CVVD (power), G3 VSS (power), G5 VSS (power), G7 CVVD (power), G8 CVVD (power), G13 CVVD (power), G17 VSS (power), G18 CVVD (power), G19 VSS (power), G21 VSS (power), H1 VSS (power), H5 CVVD (power), H7 VSS (power), H8 VSS (power), H9 DVVD (power), H10 VSS (power), H11 DVVD (power), H12 VSS (power), H13 DVVD (power), H14 VSS (power), H15 VSS (power), H16 CVVD (power), H17 CVVD (power), H18 CVVD (power), J3 DVVD (power), J5 VSS (power), J7 VSS (power), J8 DVVD (power), J9 VSS (power), J10 DVVD (power), J11 VSS (power), J12 DVVD (power), J13 VSS (power), J14 DVVD (power), J15 VSS (power), J16 VSS (power), J17 VSS (power), J19 DVVD (power), K4 CVVD (power), K5 CVVD (power), K7 DVVD (power), K8 VSS (power), K9 DVVD (power), K10 VSS (power), K11 DVVD (power), K12 VSS (power), K13 DVVD (power), K14 VSS (power), K15 DVVD (power), K17 CVVD (power), L5 VSS (power), L7 VSS (power), L8 DVVD (power), L9 VSS (power), L10 DVVD (power), L11 VSS (power), L12 DVVD (power), L13 VSS (power), L14 DVVD (power), L15 VSS (power), L17 VSS (power), L18 CVVD (power), L19 CVVD (power), L20 CVVD (power), M3 CVVD (power), M4 CVVD (power), M5 CVVD (power), M7 DVVD (power), M8 VSS (power), M9 DVVD (power), M10 VSS (power), M11 DVVD (power), M12 VSS (power), M13 DVVD (power), M14 VSS (power), M15 DVVD (power), M17 CVVD (power), N3 DVVD (power), N5 VSS (power), N7 VSS (power), N8 DVVD (power), N9 VSS (power), N10 DVVD (power), N11 VSS (power), N12 DVVD (power), N13 VSS (power), N14 DVVD (power), N15 VSS (power), N17 VSS (power), N19 DVVD (power), N20 CVVD (power), P5 CVVD (power), P7 VSS (power), P8 VSS (power), P9 DVVD (power), P10 VSS (power), P11 DVVD (power), P12 VSS (power), P13 DVVD (power), P14 VSS (power), P15 VSS (power), P17 CVVD (power), P18 CVVD (power), P19 CVVD (power), P21 VSS (power), R1 VSS (power), R3 VSS (power), R5 VSS (power), R10 CVVD (power), R14 CVVD (power), R17 VSS (power), R19 VSS (power), R21 CVVD (power), T1 CVVD (power), T4 VSS (power), T5 CVVD (power), T17 CVVD (power), T21 VSS (power), U1 VSS (power), U3 DVVD (power), U4 CVVD (power), U5 VSS (power), U6 CVVD (power), U7 VSS (power), U8 CVVD (power), U9 VSS (power), U10 CVVD (power), U11 VSS (power), U12 CVVD (power), U13 VSS (power), U14 CVVD (power), U15 VSS (power), U16 CVVD (power), U17 VSS (power), U19 DVVD (power), U21 CVVD (power), V1 CVVD (power), V2 VSS (power), V11 CVVD (power), V12 CVVD (power), V15 CVVD (power), V20 CVVD (power), V21 VSS (power), W1 VSS (power), W2 CVVD (power), W3 VSS (power), W6 VSS (power), W8 DVVD (power), W11 VSS (power), W13 CVVD (power), W14 DVVD (power), W16 VSS (power), W19 CVVD (power), W20 VSS (power), W21 CVVD (power), Y2 VSS (power), Y3 CVVD (power), Y4 VSS (power), Y18 CVVD (power), Y19 VSS (power), Y20 CVVD (power)

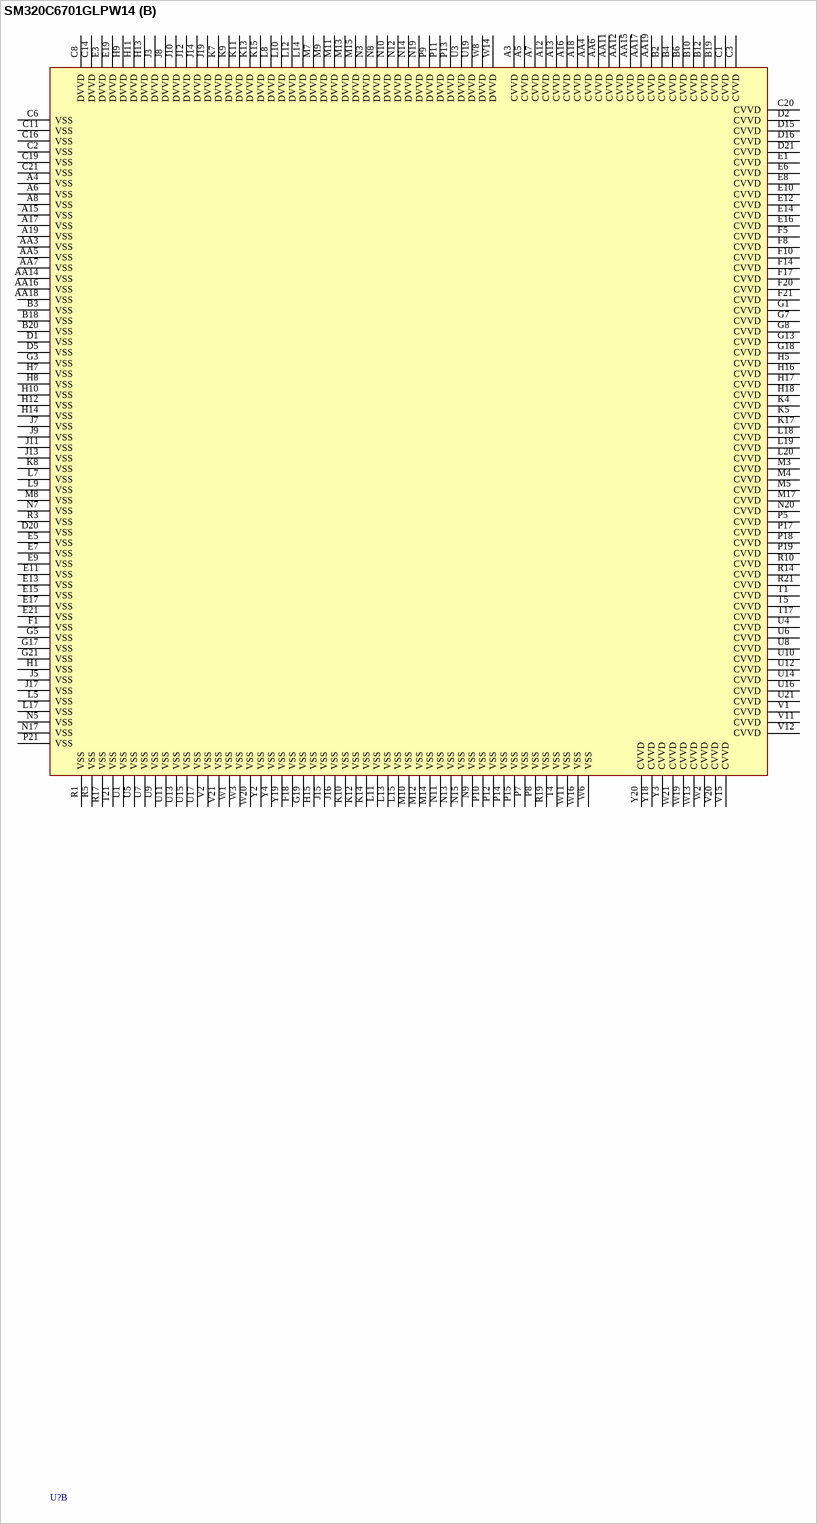
[diagram p60: symbol SM320C6701GLPW14]